# Altium schematic symbol library CHXXX.schlib: 635 symbols (part 3 of 9)
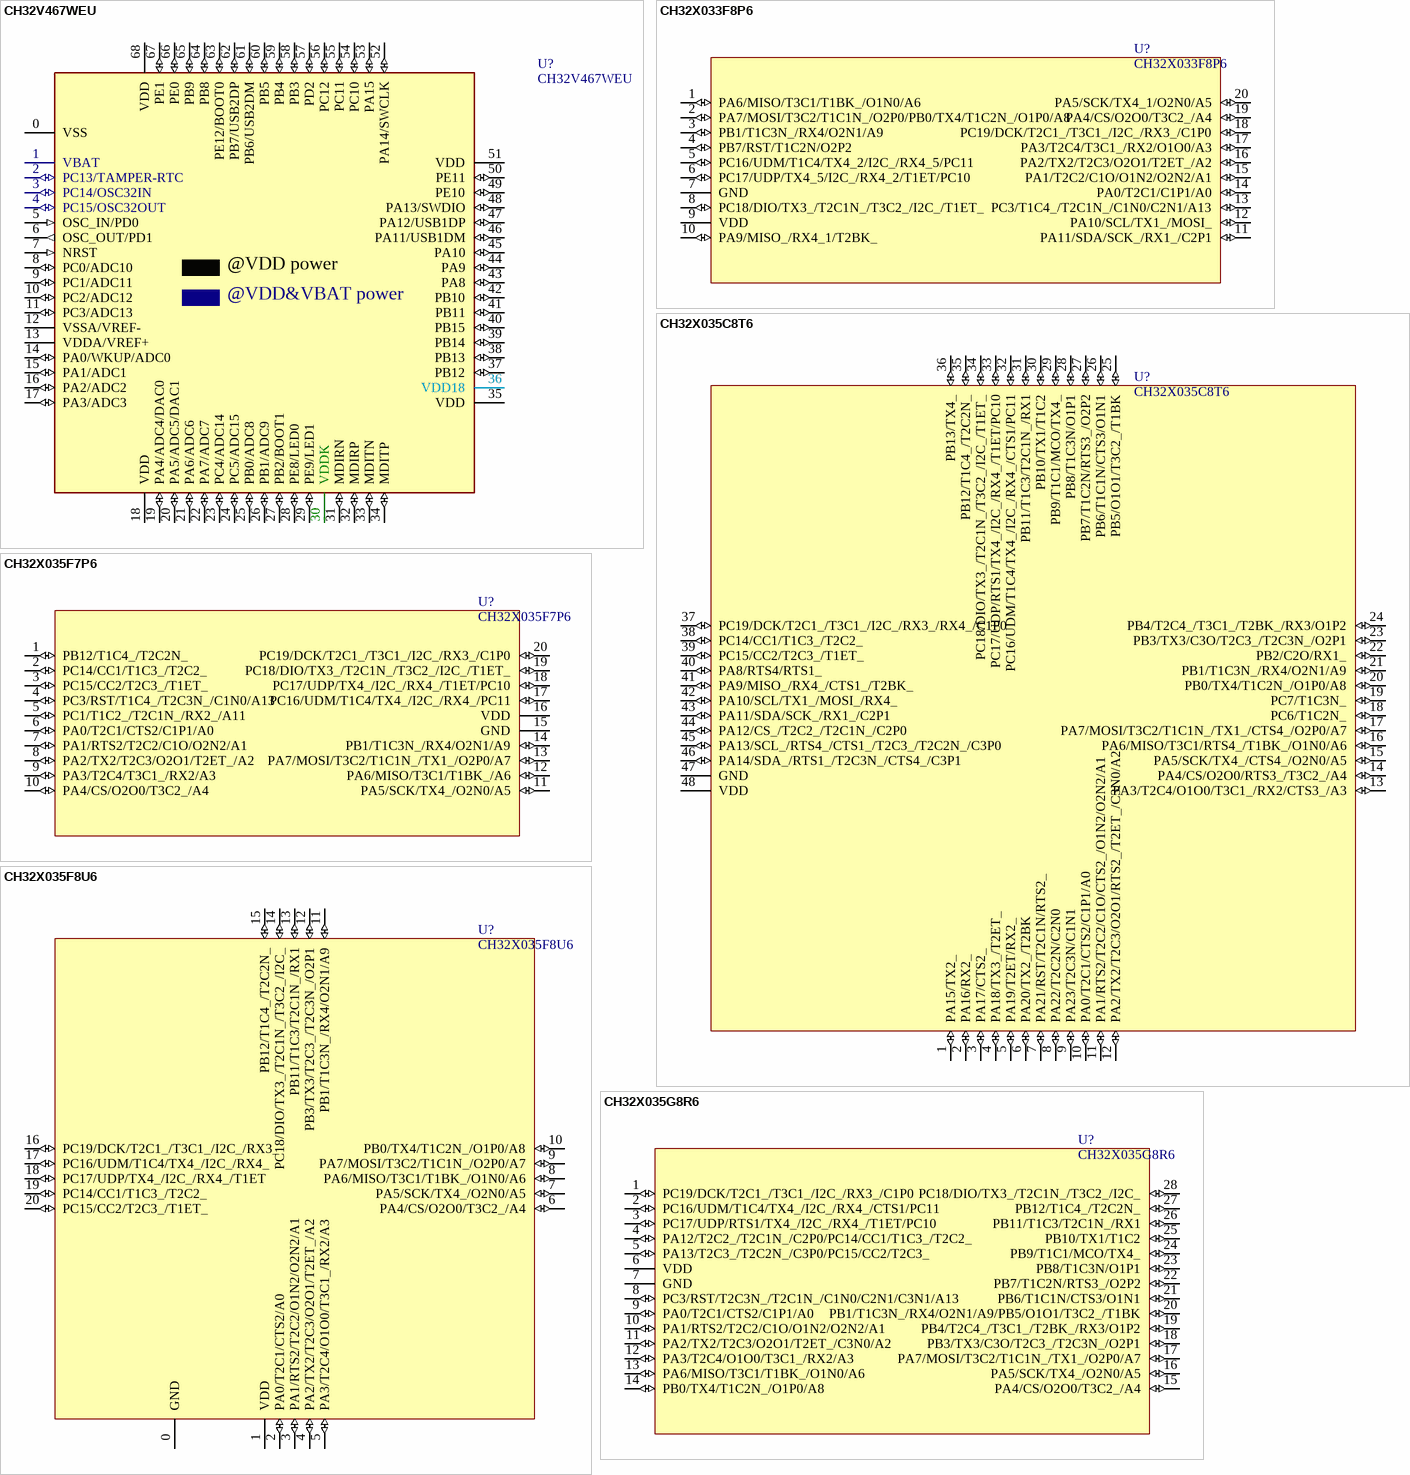
[diagram p88: symbols CH32V467WEU to CH32X035G8R6]

## CH32X035C8T6
designator U?
RISC-V MCU with USB/PD/ADC/SPI/I2C/UART/OA/CMP
footprint LQFP48 (Footprint not found)
pins: 1 PA15/TX2_ (io), 2 PA16/RX2_ (io), 3 PA17/CTS2_ (io), 4 PA18/TX3_/T2ET_ (io), 5 PA19/T2ET/RX2_ (io), 6 PA20/TX2_/T2BK (io), 7 PA21/RST/T2C1N/RTS2_ (io), 8 PA22/T2C2N/C2N0 (io), 9 PA23/T2C3N/C1N1 (io), 10 PA0/T2C1/CTS2/C1P1/A0 (io), 11 PA1/RTS2/T2C2/C1O/CTS2_/O1N2/O2N2/A1 (io), 12 PA2/TX2/T2C3/O2O1/RTS2_/T2ET_/C3N0/A2 (io), 13 PA3/T2C4/O1O0/T3C1_/RX2/CTS3_/A3 (io), 14 PA4/CS/O2O0/RTS3_/T3C2_/A4 (io), 15 PA5/SCK/TX4_/CTS4_/O2N0/A5 (io), 16 PA6/MISO/T3C1/RTS4_/T1BK_/O1N0/A6 (io), 17 PA7/MOSI/T3C2/T1C1N_/TX1_/CTS4_/O2P0/A7 (io), 18 PC6/T1C2N_ (io), 19 PC7/T1C3N_ (io), 20 PB0/TX4/T1C2N_/O1P0/A8 (io), 21 PB1/T1C3N_/RX4/O2N1/A9 (io), 22 PB2/C2O/RX1_ (io), 23 PB3/TX3/C3O/T2C3_/T2C3N_/O2P1 (io), 24 PB4/T2C4_/T3C1_/T2BK_/RX3/O1P2 (io), 25 PB5/O1O1/T3C2_/T1BK (io), 26 PB6/T1C1N/CTS3/O1N1 (io), 27 PB7/T1C2N/RTS3_/O2P2 (io), 28 PB8/T1C3N/O1P1 (io), 29 PB9/T1C1/MCO/TX4_ (io), 30 PB10/TX1/T1C2 (io), 31 PB11/T1C3/T2C1N_/RX1 (io), 32 PC16/UDM/T1C4/TX4_/I2C_/RX4_/CTS1/PC11 (io), 33 PC17/UDP/RTS1/TX4_/I2C_/RX4_/T1ET/PC10 (io), 34 PC18/DIO/TX3_/T2C1N_/T3C2_/I2C_/T1ET_ (io), 35 PB12/T1C4_/T2C2N_ (io), 36 PB13/TX4_ (io), 37 PC19/DCK/T2C1_/T3C1_/I2C_/RX3_/RX4_/C1P0 (io), 38 PC14/CC1/T1C3_/T2C2_ (io), 39 PC15/CC2/T2C3_/T1ET_ (io), 40 PA8/RTS4/RTS1_ (io), 41 PA9/MISO_/RX4_/CTS1_/T2BK_ (io), 42 PA10/SCL/TX1_/MOSI_/RX4_ (io), 43 PA11/SDA/SCK_/RX1_/C2P1 (io), 44 PA12/CS_/T2C2_/T2C1N_/C2P0 (io), 45 PA13/SCL_/RTS4_/CTS1_/T2C3_/T2C2N_/C3P0 (io), 46 PA14/SDA_/RTS1_/T2C3N_/CTS4_/C3P1 (io), 47 GND (power), 48 VDD (power)

## CH32X035F7P6
designator U?
RISC-V MCU with USB/PD/ADC/SPI/I2C/UART/OA/CMP
footprint TSSOP20 (Footprint not found)
pins: 1 PB12/T1C4_/T2C2N_ (io), 2 PC14/CC1/T1C3_/T2C2_ (io), 3 PC15/CC2/T2C3_/T1ET_ (io), 4 PC3/RST/T1C4_/T2C3N_/C1N0/A13 (io), 5 PC1/T1C2_/T2C1N_/RX2_/A11 (io), 6 PA0/T2C1/CTS2/C1P1/A0 (io), 7 PA1/RTS2/T2C2/C1O/O2N2/A1 (io), 8 PA2/TX2/T2C3/O2O1/T2ET_/A2 (io), 9 PA3/T2C4/T3C1_/RX2/A3 (io), 10 PA4/CS/O2O0/T3C2_/A4 (io), 11 PA5/SCK/TX4_/O2N0/A5 (io), 12 PA6/MISO/T3C1/T1BK_/A6 (io), 13 PA7/MOSI/T3C2/T1C1N_/TX1_/O2P0/A7 (io), 14 PB1/T1C3N_/RX4/O2N1/A9 (io), 15 GND (power), 16 VDD (power), 17 PC16/UDM/T1C4/TX4_/I2C_/RX4_/PC11 (io), 18 PC17/UDP/TX4_/I2C_/RX4_/T1ET/PC10 (io), 19 PC18/DIO/TX3_/T2C1N_/T3C2_/I2C_/T1ET_ (io), 20 PC19/DCK/T2C1_/T3C1_/I2C_/RX3_/C1P0 (io)

## CH32X035F8U6
designator U?
RISC-V MCU with USB/PD/ADC/SPI/I2C/UART/OA
footprint QFN20_3X3
pins: 0 GND (power), 1 VDD (power), 2 PA0/T2C1/CTS2/A0 (io), 3 PA1/RTS2/T2C2/O1N2/O2N2/A1 (io), 4 PA2/TX2/T2C3/O2O1/T2ET_/A2 (io), 5 PA3/T2C4/O1O0/T3C1_/RX2/A3 (io), 6 PA4/CS/O2O0/T3C2_/A4 (io), 7 PA5/SCK/TX4_/O2N0/A5 (io), 8 PA6/MISO/T3C1/T1BK_/O1N0/A6 (io), 9 PA7/MOSI/T3C2/T1C1N_/O2P0/A7 (io), 10 PB0/TX4/T1C2N_/O1P0/A8 (io), 11 PB1/T1C3N_/RX4/O2N1/A9 (io), 12 PB3/TX3/T2C3_/T2C3N_/O2P1 (io), 13 PB11/T1C3/T2C1N_/RX1 (io), 14 PC18/DIO/TX3_/T2C1N_/T3C2_/I2C_ (io), 15 PB12/T1C4_/T2C2N_ (io), 16 PC19/DCK/T2C1_/T3C1_/I2C_/RX3_ (io), 17 PC16/UDM/T1C4/TX4_/I2C_/RX4_ (io), 18 PC17/UDP/TX4_/I2C_/RX4_/T1ET (io), 19 PC14/CC1/T1C3_/T2C2_ (io), 20 PC15/CC2/T2C3_/T1ET_ (io)

## CH32X035G8R6
designator U?
RISC-V MCU with USB/PD/ADC/SPI/I2C/UART/OA/CMP
footprint QSOP28 (Footprint not found)
pins: 1 PC19/DCK/T2C1_/T3C1_/I2C_/RX3_/C1P0 (io), 2 PC16/UDM/T1C4/TX4_/I2C_/RX4_/CTS1/PC11 (io), 3 PC17/UDP/RTS1/TX4_/I2C_/RX4_/T1ET/PC10 (io), 4 PA12/T2C2_/T2C1N_/C2P0/PC14/CC1/T1C3_/T2C2_ (io), 5 PA13/T2C3_/T2C2N_/C3P0/PC15/CC2/T2C3_ (io), 6 VDD (power), 7 GND (power), 8 PC3/RST/T2C3N_/T2C1N_/C1N0/C2N1/C3N1/A13 (io), 9 PA0/T2C1/CTS2/C1P1/A0 (io), 10 PA1/RTS2/T2C2/C1O/O1N2/O2N2/A1 (io), 11 PA2/TX2/T2C3/O2O1/T2ET_/C3N0/A2 (io), 12 PA3/T2C4/O1O0/T3C1_/RX2/A3 (io), 13 PA6/MISO/T3C1/T1BK_/O1N0/A6 (io), 14 PB0/TX4/T1C2N_/O1P0/A8 (io), 15 PA4/CS/O2O0/T3C2_/A4 (io), 16 PA5/SCK/TX4_/O2N0/A5 (io), 17 PA7/MOSI/T3C2/T1C1N_/TX1_/O2P0/A7 (io), 18 PB3/TX3/C3O/T2C3_/T2C3N_/O2P1 (io), 19 PB4/T2C4_/T3C1_/T2BK_/RX3/O1P2 (io), 20 PB1/T1C3N_/RX4/O2N1/A9/PB5/O1O1/T3C2_/T1BK (io), 21 PB6/T1C1N/CTS3/O1N1 (io), 22 PB7/T1C2N/RTS3_/O2P2 (io), 23 PB8/T1C3N/O1P1 (io), 24 PB9/T1C1/MCO/TX4_ (io), 25 PB10/TX1/T1C2 (io), 26 PB11/T1C3/T2C1N_/RX1 (io), 27 PB12/T1C4_/T2C2N_ (io), 28 PC18/DIO/TX3_/T2C1N_/T3C2_/I2C_ (io)

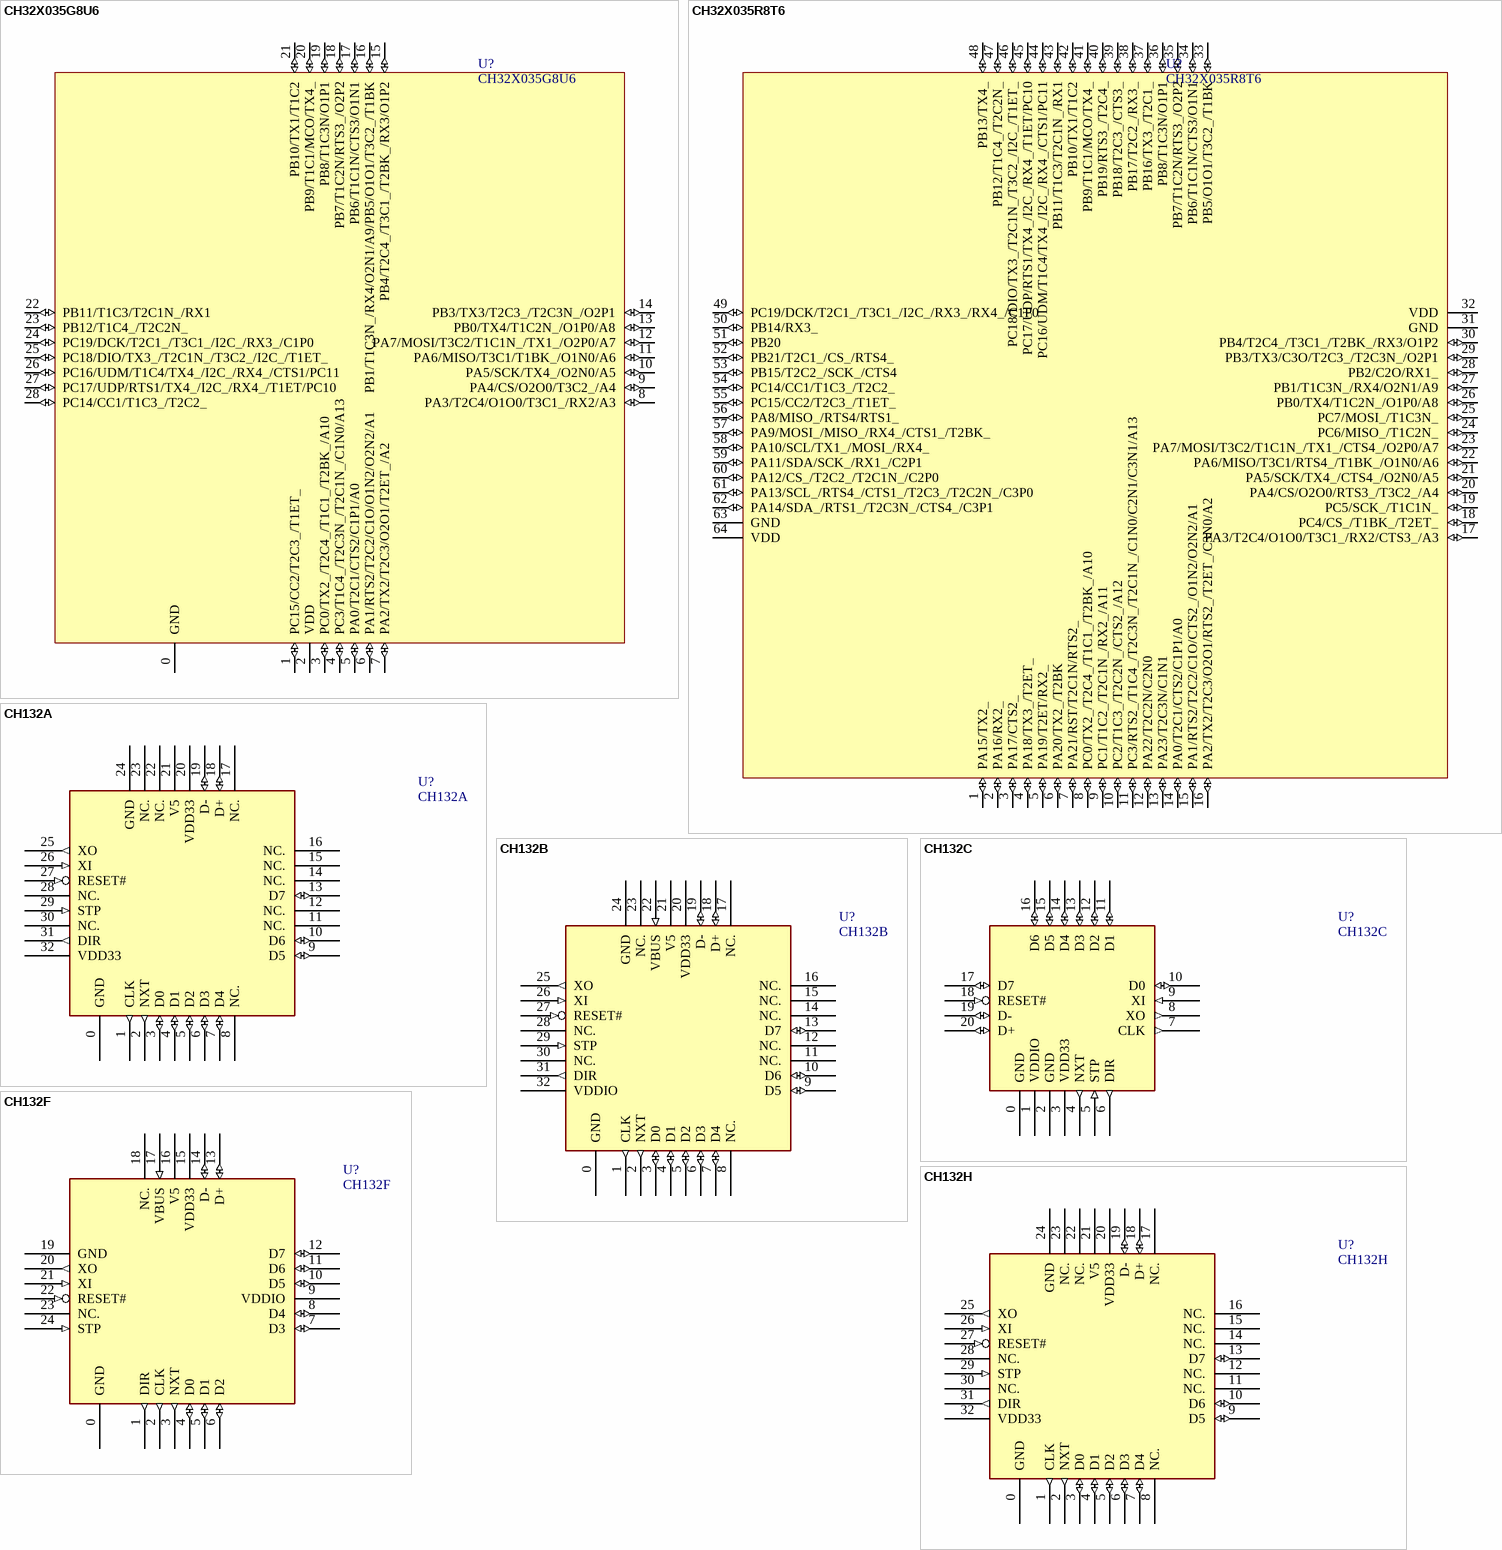
[diagram p19: symbols CH32X035G8U6 to CH132H]

## CH32X035G8U6
designator U?
RISC-V MCU with USB/PD/ADC/SPI/I2C/UART/OA/CMP
footprint QFN28_4X4 (Footprint not found)
pins: 0 GND (power), 1 PC15/CC2/T2C3_/T1ET_ (io), 2 VDD (power), 3 PC0/TX2_/T2C4_/T1C1_/T2BK_/A10 (io), 4 PC3/T1C4_/T2C3N_/T2C1N_/C1N0/A13 (io), 5 PA0/T2C1/CTS2/C1P1/A0 (io), 6 PA1/RTS2/T2C2/C1O/O1N2/O2N2/A1 (io), 7 PA2/TX2/T2C3/O2O1/T2ET_/A2 (io), 8 PA3/T2C4/O1O0/T3C1_/RX2/A3 (io), 9 PA4/CS/O2O0/T3C2_/A4 (io), 10 PA5/SCK/TX4_/O2N0/A5 (io), 11 PA6/MISO/T3C1/T1BK_/O1N0/A6 (io), 12 PA7/MOSI/T3C2/T1C1N_/TX1_/O2P0/A7 (io), 13 PB0/TX4/T1C2N_/O1P0/A8 (io), 14 PB3/TX3/T2C3_/T2C3N_/O2P1 (io), 15 PB4/T2C4_/T3C1_/T2BK_/RX3/O1P2 (io), 16 PB1/T1C3N_/RX4/O2N1/A9/PB5/O1O1/T3C2_/T1BK (io), 17 PB6/T1C1N/CTS3/O1N1 (io), 18 PB7/T1C2N/RTS3_/O2P2 (io), 19 PB8/T1C3N/O1P1 (io), 20 PB9/T1C1/MCO/TX4_ (io), 21 PB10/TX1/T1C2 (io), 22 PB11/T1C3/T2C1N_/RX1 (io), 23 PB12/T1C4_/T2C2N_ (io), 24 PC19/DCK/T2C1_/T3C1_/I2C_/RX3_/C1P0 (io), 25 PC18/DIO/TX3_/T2C1N_/T3C2_/I2C_/T1ET_ (io), 26 PC16/UDM/T1C4/TX4_/I2C_/RX4_/CTS1/PC11 (io), 27 PC17/UDP/RTS1/TX4_/I2C_/RX4_/T1ET/PC10 (io), 28 PC14/CC1/T1C3_/T2C2_ (io)

## CH32X035R8T6
designator U?
RISC-V MCU with USB/PD/ADC/SPI/I2C/UART/OA/CMP
footprint LQFP64M_10X10
pins: 1 PA15/TX2_ (io), 2 PA16/RX2_ (io), 3 PA17/CTS2_ (io), 4 PA18/TX3_/T2ET_ (io), 5 PA19/T2ET/RX2_ (io), 6 PA20/TX2_/T2BK (io), 7 PA21/RST/T2C1N/RTS2_ (io), 8 PC0/TX2_/T2C4_/T1C1_/T2BK_/A10 (io), 9 PC1/T1C2_/T2C1N_/RX2_/A11 (io), 10 PC2/T1C3_/T2C2N_/CTS2_/A12 (io), 11 PC3/RTS2_/T1C4_/T2C3N_/T2C1N_/C1N0/C2N1/C3N1/A13 (io), 12 PA22/T2C2N/C2N0 (io), 13 PA23/T2C3N/C1N1 (io), 14 PA0/T2C1/CTS2/C1P1/A0 (io), 15 PA1/RTS2/T2C2/C1O/CTS2_/O1N2/O2N2/A1 (io), 16 PA2/TX2/T2C3/O2O1/RTS2_/T2ET_/C3N0/A2 (io), 17 PA3/T2C4/O1O0/T3C1_/RX2/CTS3_/A3 (io), 18 PC4/CS_/T1BK_/T2ET_ (io), 19 PC5/SCK_/T1C1N_ (io), 20 PA4/CS/O2O0/RTS3_/T3C2_/A4 (io), 21 PA5/SCK/TX4_/CTS4_/O2N0/A5 (io), 22 PA6/MISO/T3C1/RTS4_/T1BK_/O1N0/A6 (io), 23 PA7/MOSI/T3C2/T1C1N_/TX1_/CTS4_/O2P0/A7 (io), 24 PC6/MISO_/T1C2N_ (io), 25 PC7/MOSI_/T1C3N_ (io), 26 PB0/TX4/T1C2N_/O1P0/A8 (io), 27 PB1/T1C3N_/RX4/O2N1/A9 (io), 28 PB2/C2O/RX1_ (io), 29 PB3/TX3/C3O/T2C3_/T2C3N_/O2P1 (io), 30 PB4/T2C4_/T3C1_/T2BK_/RX3/O1P2 (io), 31 GND (power), 32 VDD (power), 33 PB5/O1O1/T3C2_/T1BK (io), 34 PB6/T1C1N/CTS3/O1N1 (io), 35 PB7/T1C2N/RTS3_/O2P2 (io), 36 PB8/T1C3N/O1P1 (io), 37 PB16/TX3_/T2C1_ (io), 38 PB17/T2C2_/RX3_ (io), 39 PB18/T2C3_/CTS3_ (io), 40 PB19/RTS3_/T2C4_ (io), 41 PB9/T1C1/MCO/TX4_ (io), 42 PB10/TX1/T1C2 (io), 43 PB11/T1C3/T2C1N_/RX1 (io), 44 PC16/UDM/T1C4/TX4_/I2C_/RX4_/CTS1/PC11 (io), 45 PC17/UDP/RTS1/TX4_/I2C_/RX4_/T1ET/PC10 (io), 46 PC18/DIO/TX3_/T2C1N_/T3C2_/I2C_/T1ET_ (io), 47 PB12/T1C4_/T2C2N_ (io), 48 PB13/TX4_ (io), 49 PC19/DCK/T2C1_/T3C1_/I2C_/RX3_/RX4_/C1P0 (io), 50 PB14/RX3_ (io), 51 PB20 (io), 52 PB21/T2C1_/CS_/RTS4_ (io), 53 PB15/T2C2_/SCK_/CTS4 (io), 54 PC14/CC1/T1C3_/T2C2_ (io), 55 PC15/CC2/T2C3_/T1ET_ (io), 56 PA8/MISO_/RTS4/RTS1_ (io), 57 PA9/MOSI_/MISO_/RX4_/CTS1_/T2BK_ (io), 58 PA10/SCL/TX1_/MOSI_/RX4_ (io), 59 PA11/SDA/SCK_/RX1_/C2P1 (io), 60 PA12/CS_/T2C2_/T2C1N_/C2P0 (io), 61 PA13/SCL_/RTS4_/CTS1_/T2C3_/T2C2N_/C3P0 (io), 62 PA14/SDA_/RTS1_/T2C3N_/CTS4_/C3P1 (io), 63 GND (power), 64 VDD (power)

## CH132A
designator U?
ULPI High-Speed USB PHY (Transceiver)
footprint QFN32_5X5 (Footprint not found)
pins: 0 GND (power), 1 CLK (out), 2 NXT (out), 3 D0 (io), 4 D1 (io), 5 D2 (io), 6 D3 (io), 7 D4 (io), 8 NC., 9 D5 (io), 10 D6 (io), 11 NC., 12 NC., 13 D7 (io), 14 NC., 15 NC., 16 NC., 17 NC., 18 D+ (io), 19 D- (io), 20 VDD33 (power), 21 V5 (power), 22 NC., 23 NC., 24 GND (power), 25 XO (out), 26 XI (in), 27 RESET# (in), 28 NC., 29 STP (in), 30 NC., 31 DIR (out), 32 VDD33

## CH132B
designator U?
ULPI High-Speed USB PHY (Transceiver)
footprint QFN32_5X5
pins: 0 GND (power), 1 CLK (out), 2 NXT (out), 3 D0 (io), 4 D1 (io), 5 D2 (io), 6 D3 (io), 7 D4 (io), 8 NC., 9 D5 (io), 10 D6 (io), 11 NC., 12 NC., 13 D7 (io), 14 NC., 15 NC., 16 NC., 17 NC., 18 D+ (io), 19 D- (io), 20 VDD33 (power), 21 V5 (power), 22 VBUS (in), 23 NC., 24 GND (power), 25 XO (out), 26 XI (in), 27 RESET# (in), 28 NC., 29 STP (in), 30 NC., 31 DIR (out), 32 VDDIO

## CH132C
designator U?
ULPI High-Speed USB PHY (Transceiver)
footprint QFN20C_2X2 (Footprint not found)
pins: 0 GND (power), 1 VDDIO (power), 2 GND (power), 3 VDD33 (power), 4 NXT (out), 5 STP (in), 6 DIR (out), 7 CLK (out), 8 XO (out), 9 XI (in), 10 D0 (io), 11 D1 (io), 12 D2 (io), 13 D3 (io), 14 D4 (io), 15 D5 (io), 16 D6 (io), 17 D7 (io), 18 RESET# (in), 19 D- (io), 20 D+ (io)

## CH132F
designator U?
ULPI High-Speed USB PHY (Transceiver)
footprint QFN24_4X4
pins: 0 GND (power), 1 DIR (out), 2 CLK (out), 3 NXT (out), 4 D0 (io), 5 D1 (io), 6 D2 (io), 7 D3 (io), 8 D4 (io), 9 VDDIO (power), 10 D5 (io), 11 D6 (io), 12 D7 (io), 13 D+ (io), 14 D- (io), 15 VDD33 (power), 16 V5 (power), 17 VBUS (in), 18 NC., 19 GND (power), 20 XO (out), 21 XI (in), 22 RESET# (in), 23 NC., 24 STP (in)

## CH132H
designator U?
ULPI High-Speed USB PHY (Transceiver)
footprint QFN32_5X5 (Footprint not found)
pins: 0 GND (power), 1 CLK (out), 2 NXT (out), 3 D0 (io), 4 D1 (io), 5 D2 (io), 6 D3 (io), 7 D4 (io), 8 NC., 9 D5 (io), 10 D6 (io), 11 NC., 12 NC., 13 D7 (io), 14 NC., 15 NC., 16 NC., 17 NC., 18 D+ (io), 19 D- (io), 20 VDD33 (power), 21 V5 (power), 22 NC., 23 NC., 24 GND (power), 25 XO (out), 26 XI (in), 27 RESET# (in), 28 NC., 29 STP (in), 30 NC., 31 DIR (out), 32 VDD33 (power)

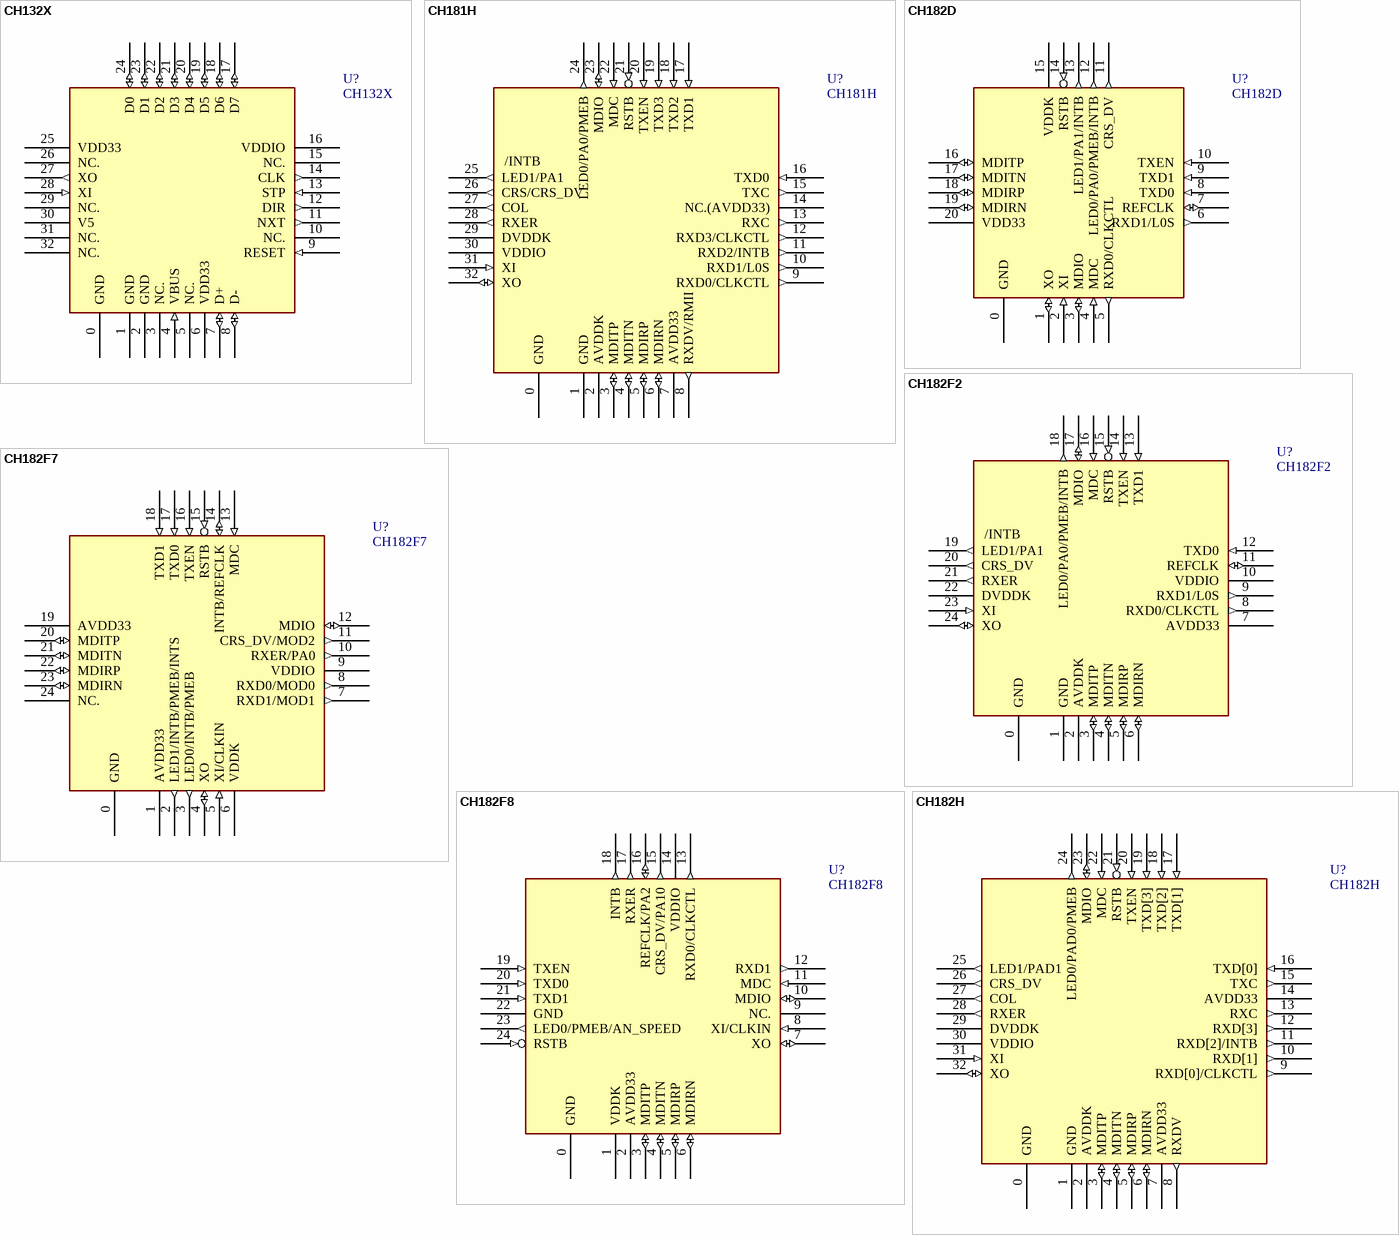
[diagram p20: symbols CH132X to CH182H]

## CH132X
designator U?
ULPI High-Speed USB PHY (Transceiver)
footprint QFN32_5X5
pins: 0 GND (power), 1 GND (power), 2 GND (power), 3 NC., 4 VBUS (in), 5 NC., 6 VDD33 (power), 7 D+ (io), 8 D- (io), 9 RESET (in), 10 NC., 11 NXT (out), 12 DIR (out), 13 STP (in), 14 CLK (out), 15 NC., 16 VDDIO (power), 17 D7 (io), 18 D6 (io), 19 D5 (io), 20 D4 (io), 21 D3 (io), 22 D2 (io), 23 D1 (io), 24 D0 (io), 25 VDD33 (power), 26 NC., 27 XO (out), 28 XI (in), 29 NC., 30 V5 (power), 31 NC., 32 NC.

## CH181H
designator U?
MII/RMII 10/100M Ethernet PHY (Transceiver) with auto MDIX
footprint QFN32_5X5
pins: 0 GND (power), 1 GND (power), 2 AVDDK (power), 3 MDITP (io), 4 MDITN (io), 5 MDIRP (io), 6 MDIRN (io), 7 AVDD33 (power), 8 RXDV/RMII (out), 9 RXD0/CLKCTL (out), 10 RXD1/L0S (out), 11 RXD2/INTB (out), 12 RXD3/CLKCTL (out), 13 RXC (out), 14 NC.(AVDD33) (power), 15 TXC (out), 16 TXD0 (in), 17 TXD1 (in), 18 TXD2 (in), 19 TXD3 (in), 20 TXEN (in), 21 RSTB (in), 22 MDC (in), 23 MDIO (io), 24 LED0/PA0/PMEB (out), 25 LED1/PA1 (out), 26 CRS/CRS_DV (out), 27 COL (out), 28 RXER (out), 29 DVDDK (power), 30 VDDIO (power), 31 XI (in), 32 XO (io)
text: /INTB

## CH182D
designator U?
RMII 10/100M Ethernet PHY (Transceiver) with auto MDIX
footprint QFN20_3X3
pins: 0 GND (power), 1 XO (io), 2 XI (in), 3 MDIO (io), 4 MDC (in), 5 RXD0/CLKCTL (out), 6 RXD1/L0S (out), 7 REFCLK (io), 8 TXD0 (in), 9 TXD1 (in), 10 TXEN (in), 11 CRS_DV (out), 12 LED0/PA0/PMEB/INTB (out), 13 LED1/PA1/INTB (out), 14 RSTB (in), 15 VDDK (power), 16 MDITP (io), 17 MDITN (io), 18 MDIRP (io), 19 MDIRN (io), 20 VDD33 (power)

## CH182F2
designator U?
RMII 10/100M Ethernet PHY (Transceiver) with auto MDIX
footprint QFN24_4X4
pins: 0 GND (power), 1 GND (power), 2 AVDDK (power), 3 MDITP (io), 4 MDITN (io), 5 MDIRP (io), 6 MDIRN (io), 7 AVDD33 (power), 8 RXD0/CLKCTL (out), 9 RXD1/L0S (out), 10 VDDIO (power), 11 REFCLK (io), 12 TXD0 (in), 13 TXD1 (in), 14 TXEN (in), 15 RSTB (in), 16 MDC (in), 17 MDIO (io), 18 LED0/PA0/PMEB/INTB (out), 19 LED1/PA1 (out), 20 CRS_DV (out), 21 RXER (out), 22 DVDDK (power), 23 XI (in), 24 XO (io)
text: /INTB

## CH182F7
designator U?
RMII 10/100M Ethernet PHY (Transceiver) with auto MDIX
footprint QFN24_4X4
pins: 0 GND (power), 1 AVDD33 (power), 2 LED1/INTB/PMEB/INTS (out), 3 LED0/INTB/PMEB (out), 4 XO (io), 5 XI/CLKIN (in), 6 VDDK (power), 7 RXD1/MOD1 (out), 8 RXD0/MOD0 (out), 9 VDDIO (power), 10 RXER/PA0 (out), 11 CRS_DV/MOD2 (out), 12 MDIO (io), 13 MDC (in), 14 INTB/REFCLK (io), 15 RSTB (in), 16 TXEN (in), 17 TXD0 (in), 18 TXD1 (in), 19 AVDD33 (power), 20 MDITP (io), 21 MDITN (io), 22 MDIRP (io), 23 MDIRN (io), 24 NC.

## CH182F8
designator U?
RMII 10/100M Ethernet PHY (Transceiver) with auto MDIX
footprint QFN24_4X4
pins: 0 GND (power), 1 VDDK (power), 2 AVDD33 (power), 3 MDITP (io), 4 MDITN (io), 5 MDIRP (io), 6 MDIRN (io), 7 XO (io), 8 XI/CLKIN (in), 9 NC., 10 MDIO (io), 11 MDC (in), 12 RXD1 (out), 13 RXD0/CLKCTL (out), 14 VDDIO (power), 15 CRS_DV/PA10 (out), 16 REFCLK/PA2 (io), 17 RXER (out), 18 INTB (out), 19 TXEN (in), 20 TXD0 (in), 21 TXD1 (in), 22 GND (power), 23 LED0/PMEB/AN_SPEED (out), 24 RSTB (in)

## CH182H
designator U?
MII/RMII 10/100M Ethernet PHY (Transceiver) with auto MDIX
footprint QFN32_5X5 (Footprint not found)
pins: 0 GND (power), 1 GND (power), 2 AVDDK (power), 3 MDITP (io), 4 MDITN (io), 5 MDIRP (io), 6 MDIRN (io), 7 AVDD33 (power), 8 RXDV (out), 9 RXD[0]/CLKCTL (out), 10 RXD[1] (out), 11 RXD[2]/INTB (out), 12 RXD[3] (out), 13 RXC (out), 14 AVDD33 (power), 15 TXC (out), 16 TXD[0] (in), 17 TXD[1] (in), 18 TXD[2] (in), 19 TXD[3] (in), 20 TXEN (in), 21 RSTB (in), 22 MDC (in), 23 MDIO (io), 24 LED0/PAD0/PMEB (out), 25 LED1/PAD1 (out), 26 CRS_DV (out), 27 COL (out), 28 RXER (out), 29 DVDDK (power), 30 VDDIO (power), 31 XI (in), 32 XO (io)

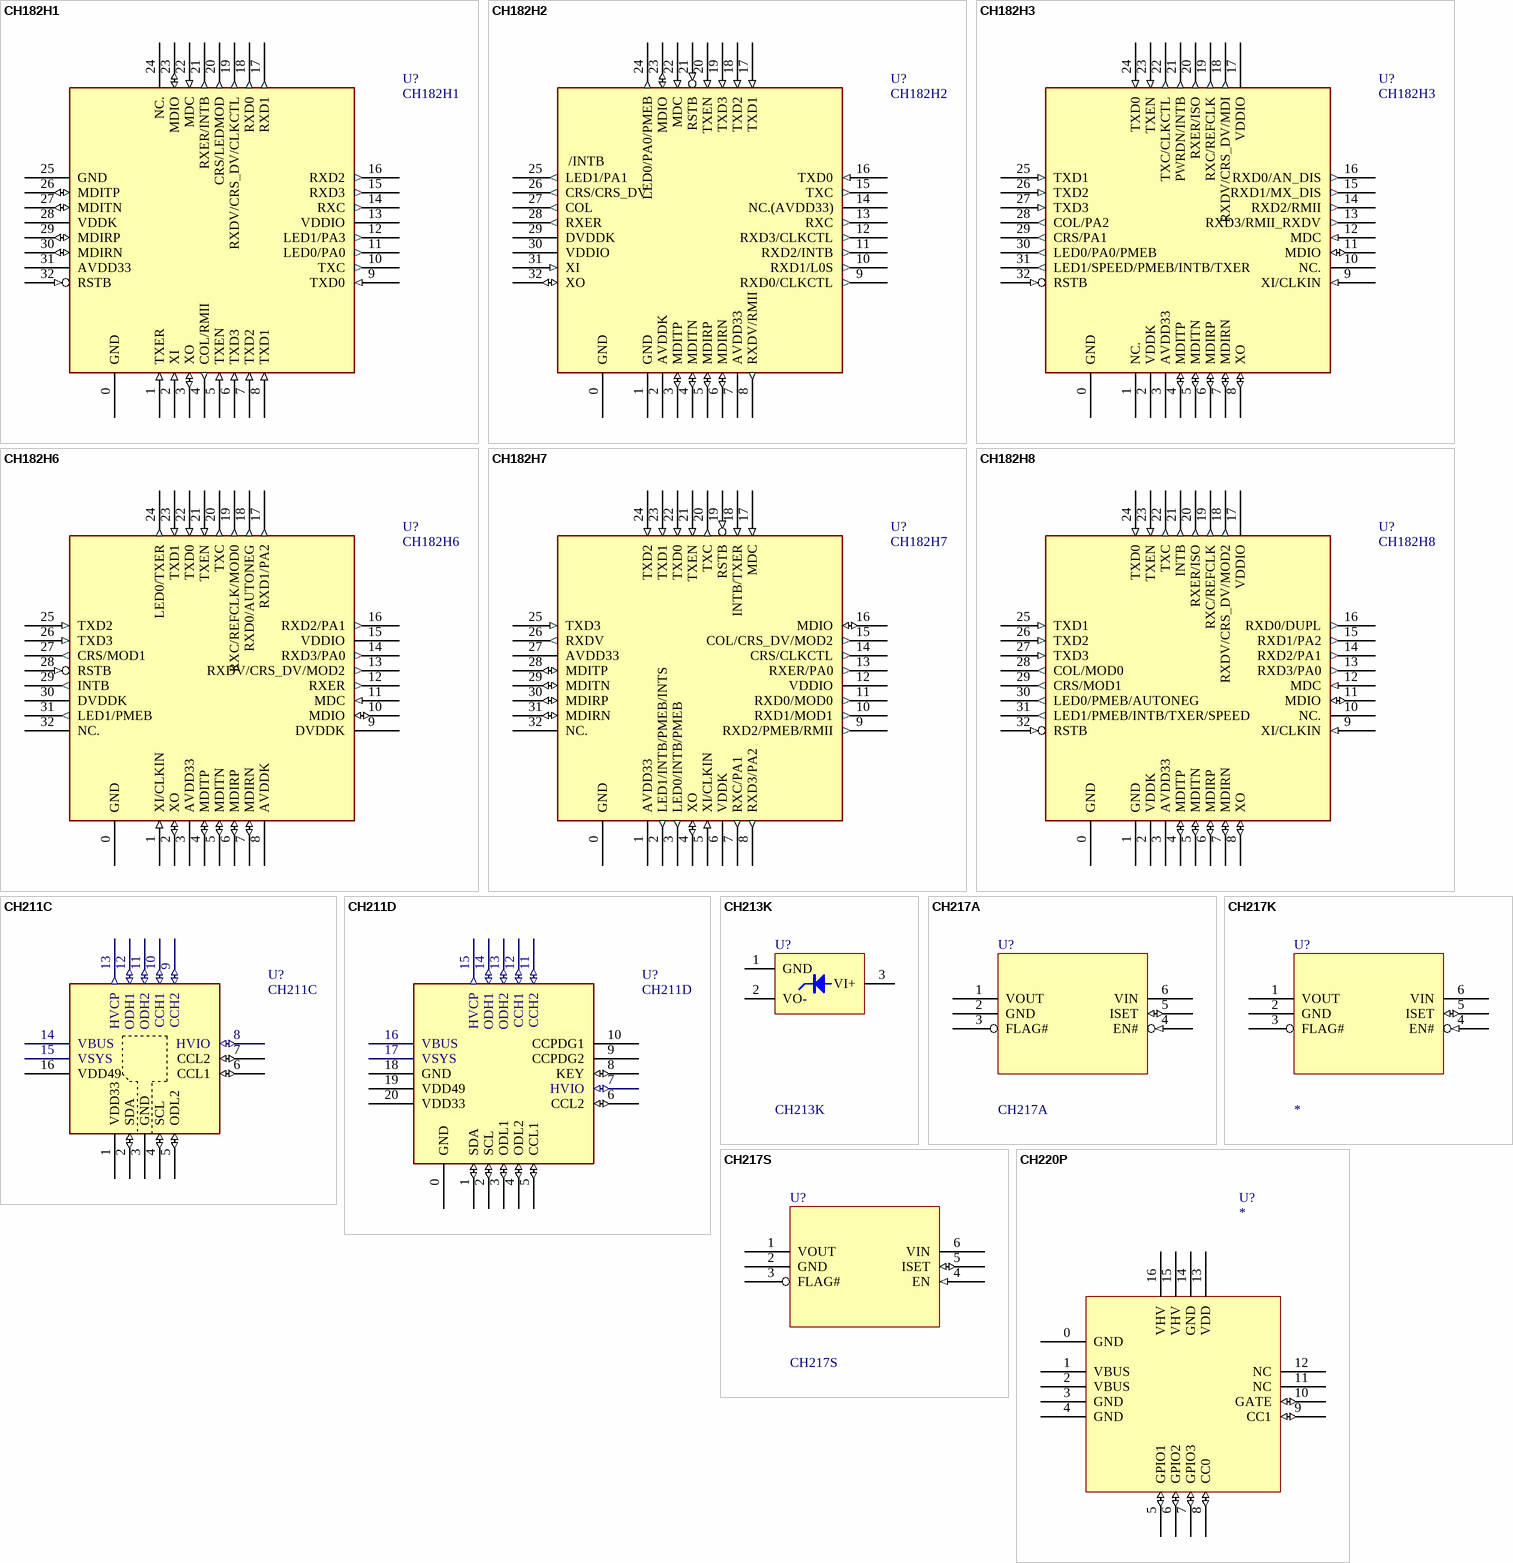
[diagram p21: symbols CH182H1 to CH220P]

## CH182H1
designator U?
MII/RMII 10/100M Ethernet PHY (Transceiver) with auto MDIX
footprint QFN32_4X4
pins: 0 GND (power), 1 TXER (in), 2 XI (in), 3 XO (io), 4 COL/RMII (out), 5 TXEN (in), 6 TXD3 (in), 7 TXD2 (in), 8 TXD1 (in), 9 TXD0 (in), 10 TXC (out), 11 LED0/PA0 (out), 12 LED1/PA3 (out), 13 VDDIO (power), 14 RXC (out), 15 RXD3 (out), 16 RXD2 (out), 17 RXD1 (out), 18 RXD0 (out), 19 RXDV/CRS_DV/CLKCTL (out), 20 CRS/LEDMOD (out), 21 RXER/INTB (out), 22 MDC (in), 23 MDIO (io), 24 NC., 25 GND (power), 26 MDITP (io), 27 MDITN (io), 28 VDDK (power), 29 MDIRP (io), 30 MDIRN (io), 31 AVDD33 (power), 32 RSTB (in)

## CH182H2
designator U?
MII/RMII 10/100M Ethernet PHY (Transceiver) with auto MDIX
footprint QFN32_5X5
pins: 0 GND (power), 1 GND (power), 2 AVDDK (power), 3 MDITP (io), 4 MDITN (io), 5 MDIRP (io), 6 MDIRN (io), 7 AVDD33 (power), 8 RXDV/RMII (out), 9 RXD0/CLKCTL (out), 10 RXD1/L0S (out), 11 RXD2/INTB (out), 12 RXD3/CLKCTL (out), 13 RXC (out), 14 NC.(AVDD33) (power), 15 TXC (out), 16 TXD0 (in), 17 TXD1 (in), 18 TXD2 (in), 19 TXD3 (in), 20 TXEN (in), 21 RSTB (in), 22 MDC (in), 23 MDIO (io), 24 LED0/PA0/PMEB (out), 25 LED1/PA1 (out), 26 CRS/CRS_DV (out), 27 COL (out), 28 RXER (out), 29 DVDDK (power), 30 VDDIO (power), 31 XI (in), 32 XO (io)
text: /INTB

## CH182H3
designator U?
MII/RMII 10/100M Ethernet PHY (Transceiver) with auto MDIX
footprint QFN32_5X5
pins: 0 GND (power), 1 NC., 2 VDDK (power), 3 AVDD33 (power), 4 MDITP (io), 5 MDITN (io), 6 MDIRP (io), 7 MDIRN (io), 8 XO (io), 9 XI/CLKIN (in), 10 NC., 11 MDIO (io), 12 MDC (in), 13 RXD3/RMII_RXDV (out), 14 RXD2/RMII (out), 15 RXD1/MX_DIS (out), 16 RXD0/AN_DIS (out), 17 VDDIO (power), 18 RXDV/CRS_DV/MDI (out), 19 RXC/REFCLK (out), 20 RXER/ISO (out), 21 PWRDN/INTB (out), 22 TXC/CLKCTL (out), 23 TXEN (in), 24 TXD0 (in), 25 TXD1 (in), 26 TXD2 (in), 27 TXD3 (in), 28 COL/PA2 (out), 29 CRS/PA1 (out), 30 LED0/PA0/PMEB (out), 31 LED1/SPEED/PMEB/INTB/TXER (out), 32 RSTB (in)

## CH182H6
designator U?
MII/RMII 10/100M Ethernet PHY (Transceiver) with auto MDIX
footprint QFN32_5X5
pins: 0 GND (power), 1 XI/CLKIN (in), 2 XO (io), 3 AVDD33 (power), 4 MDITP (io), 5 MDITN (io), 6 MDIRP (io), 7 MDIRN (io), 8 AVDDK (power), 9 DVDDK (power), 10 MDIO (io), 11 MDC (in), 12 RXER (out), 13 RXDV/CRS_DV/MOD2 (out), 14 RXD3/PA0 (out), 15 VDDIO (power), 16 RXD2/PA1 (out), 17 RXD1/PA2 (out), 18 RXD0/AUTONEG (out), 19 RXC/REFCLK/MOD0 (out), 20 TXC (out), 21 TXEN (in), 22 TXD0 (in), 23 TXD1 (in), 24 LED0/TXER (out), 25 TXD2 (in), 26 TXD3 (in), 27 CRS/MOD1 (out), 28 RSTB (in), 29 INTB (out), 30 DVDDK (power), 31 LED1/PMEB (out), 32 NC.

## CH182H7
designator U?
MII/RMII 10/100M Ethernet PHY (Transceiver) with auto MDIX
footprint QFN32_5X5
pins: 0 GND (power), 1 AVDD33 (power), 2 LED1/INTB/PMEB/INTS (out), 3 LED0/INTB/PMEB (out), 4 XO (io), 5 XI/CLKIN (in), 6 VDDK (power), 7 RXC/PA1 (out), 8 RXD3/PA2 (out), 9 RXD2/PMEB/RMII (out), 10 RXD1/MOD1 (out), 11 RXD0/MOD0 (out), 12 VDDIO (power), 13 RXER/PA0 (out), 14 CRS/CLKCTL (out), 15 COL/CRS_DV/MOD2 (out), 16 MDIO (io), 17 MDC (in), 18 INTB/TXER (in), 19 RSTB (in), 20 TXC (out), 21 TXEN (in), 22 TXD0 (in), 23 TXD1 (in), 24 TXD2 (in), 25 TXD3 (in), 26 RXDV (out), 27 AVDD33 (power), 28 MDITP (io), 29 MDITN (io), 30 MDIRP (io), 31 MDIRN (io), 32 NC.

## CH182H8
designator U?
MII/RMII 10/100M Ethernet PHY (Transceiver) with auto MDIX
footprint QFN32_5X5
pins: 0 GND (power), 1 GND (power), 2 VDDK (power), 3 AVDD33 (power), 4 MDITP (io), 5 MDITN (io), 6 MDIRP (io), 7 MDIRN (io), 8 XO (io), 9 XI/CLKIN (in), 10 NC., 11 MDIO (io), 12 MDC (in), 13 RXD3/PA0 (out), 14 RXD2/PA1 (out), 15 RXD1/PA2 (out), 16 RXD0/DUPL (out), 17 VDDIO (power), 18 RXDV/CRS_DV/MOD2 (out), 19 RXC/REFCLK (out), 20 RXER/ISO (out), 21 INTB (out), 22 TXC (out), 23 TXEN (in), 24 TXD0 (in), 25 TXD1 (in), 26 TXD2 (in), 27 TXD3 (in), 28 COL/MOD0 (out), 29 CRS/MOD1 (out), 30 LED0/PMEB/AUTONEG (out), 31 LED1/PMEB/INTB/TXER/SPEED (out), 32 RSTB (in)

## CH211C
designator U?
28V USB PD & Type-C high voltage interface
footprint QFN16C_2X2
pins: 1 VDD33 (power), 2 SDA (io), 3 GND (power), 4 SCL (io), 5 ODL2 (io), 6 CCL1 (io), 7 CCL2 (io), 8 HVIO (io), 9 CCH2 (io), 10 CCH1 (io), 11 ODH2 (io), 12 ODH1 (io), 13 HVCP (out), 14 VBUS (power), 15 VSYS (power), 16 VDD49 (power)

## CH211D
designator U?
28V USB PD & Type-C high voltage interface
footprint QFN20_3X3
pins: 0 GND (power), 1 SDA (io), 2 SCL (io), 3 ODL1 (io), 4 ODL2 (io), 5 CCL1 (io), 6 CCL2 (io), 7 HVIO (io), 8 KEY (io), 9 CCPDG2 (power), 10 CCPDG1 (power), 11 CCH2 (io), 12 CCH1 (io), 13 ODH2 (io), 14 ODH1 (io), 15 HVCP (out), 16 VBUS (power), 17 VSYS (power), 18 GND (power), 19 VDD49 (power), 20 VDD33 (power)

## CH213K
designator U?
Ideal Diode 5V*1A
footprint SOT23L (Footprint not found)
footprint SOT-23-3
pins: 1 GND (power), 2 VO- (power), 3 VI+ (power)

## CH217A
designator U?
Current-Limited USB Power Distribution Switch
footprint SOT-23-6
pins: 1 VOUT (power), 2 GND (power), 3 FLAG# (oc), 4 EN# (in), 5 ISET (io), 6 VIN (power)

## CH217K
designator U?
Current-Limited USB Power Distribution Switch
footprint SOT-23-6
pins: 1 VOUT (power), 2 GND (power), 3 FLAG# (oc), 4 EN# (in), 5 ISET (io), 6 VIN (power)

## CH217S
designator U?
Current-Limited USB Power Distribution Switch
footprint SOT-23-6
pins: 1 VOUT (power), 2 GND (power), 3 FLAG# (oc), 4 EN (in), 5 ISET (io), 6 VIN (power)

## CH220P
designator U?
USB PD & Type-C Power Manager
footprint QFN16_3X3
pins: 0 GND (power), 1 VBUS (power), 2 VBUS (power), 3 GND (power), 4 GND (power), 5 GPIO1 (io), 6 GPIO2 (io), 7 GPIO3 (io), 8 CC0 (io), 9 CC1 (io), 10 GATE (io), 11 NC, 12 NC, 13 VDD (power), 14 GND (power), 15 VHV (power), 16 VHV (power)

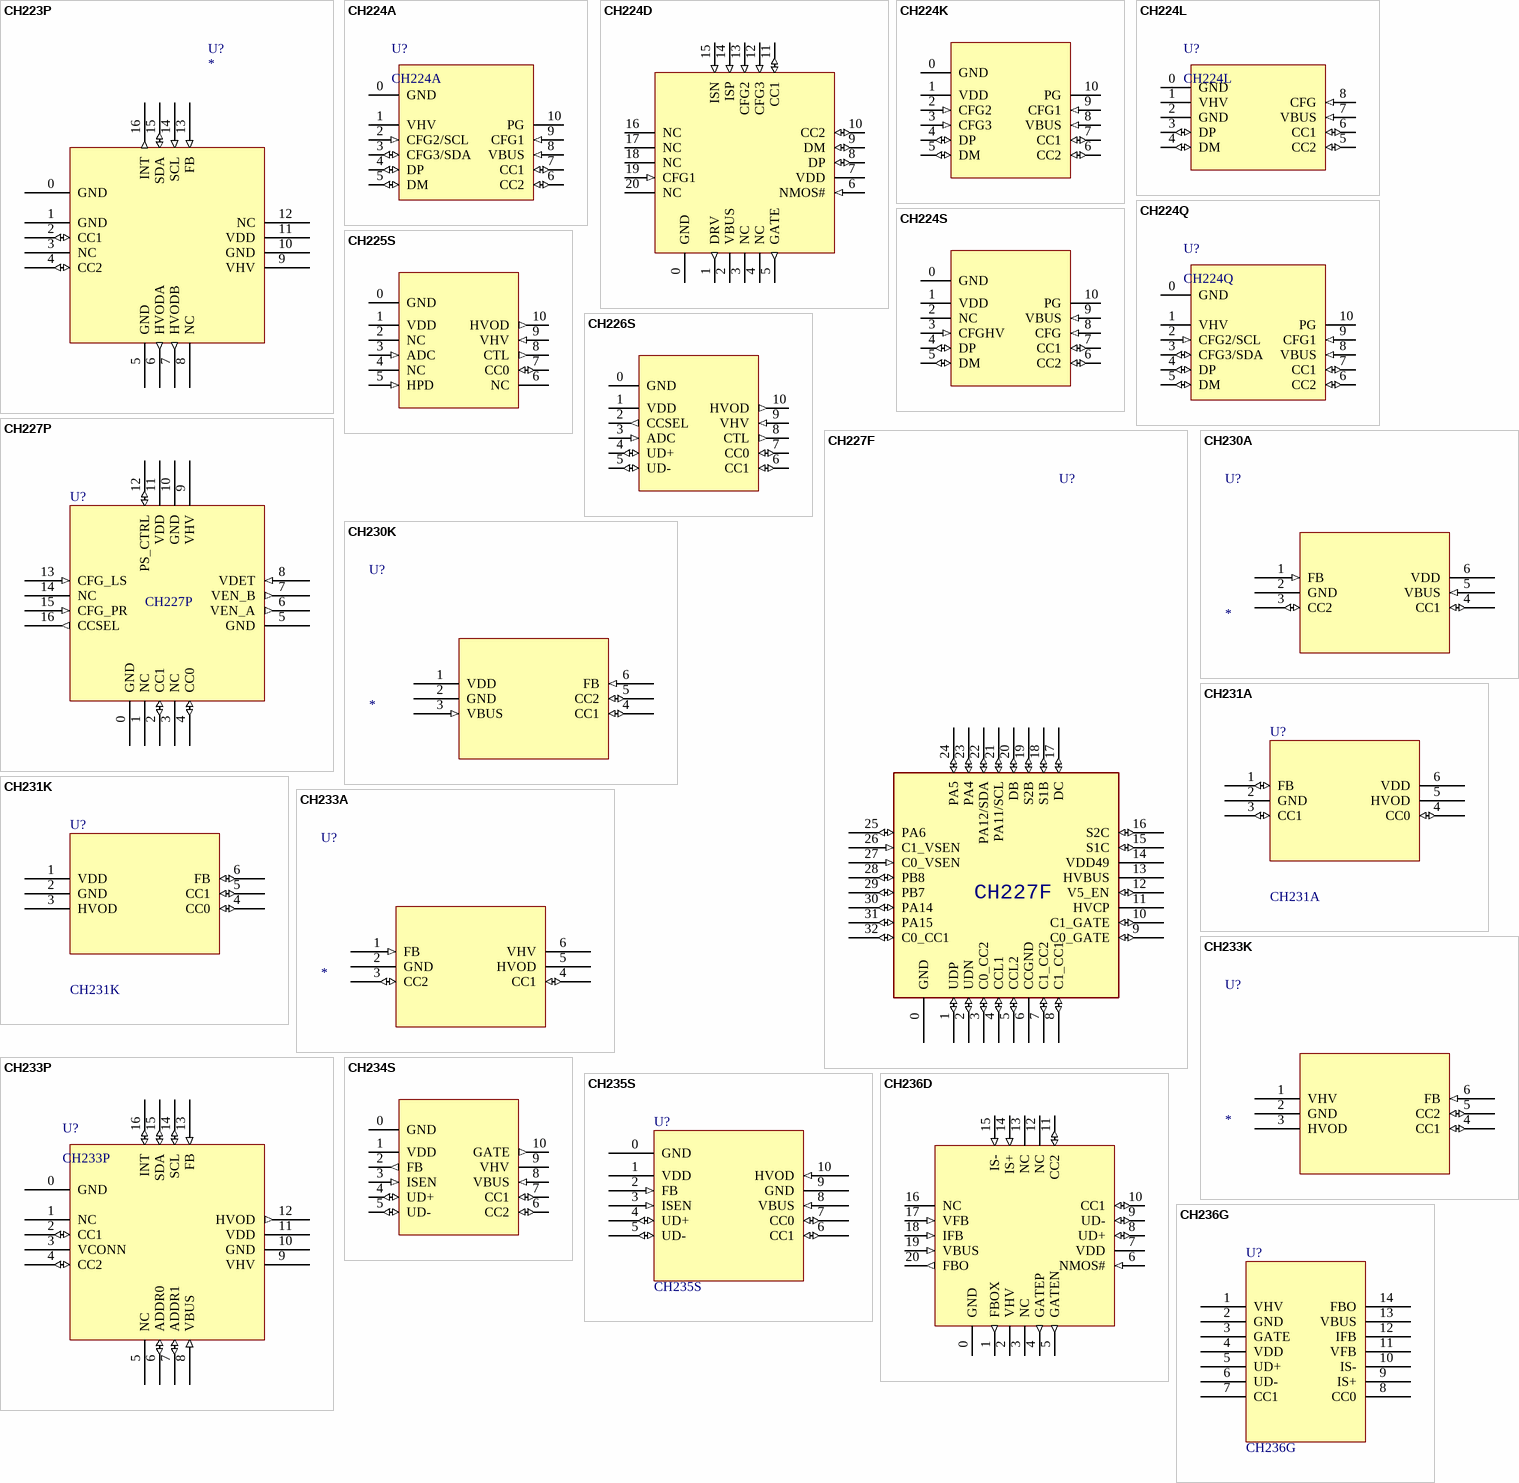
[diagram p22: symbols CH223P to CH236G]

## CH223P
designator U?
USB PD & Type-C Power Provider Controller
footprint QFN16_3X3
pins: 0 GND (power), 1 GND, 2 CC1 (io), 3 NC (power), 4 CC2 (io), 5 GND (power), 6 HVODA (out), 7 HVODB (out), 8 NC, 9 VHV (power), 10 GND (power), 11 VDD (power), 12 NC, 13 FB (in), 14 SCL (in), 15 SDA (io), 16 INT (out)

## CH224A
designator U?
USB PD & Type-C & Fast Charge Power Consumer Controller
footprint ESSOP10
pins: 0 GND (power), 1 VHV (power), 2 CFG2/SCL (in), 3 CFG3/SDA (io), 4 DP (io), 5 DM (io), 6 CC2 (io), 7 CC1 (io), 8 VBUS (in), 9 CFG1 (in), 10 PG

## CH224D
designator U?  (value not drawn)
USB PD & Type-C & Fast Charge Power Consumer Controller
footprint QFN20_3X3
pins: 0 GND (power), 1 DRV (out), 2 VBUS (power), 3 NC, 4 NC, 5 GATE (out), 6 NMOS# (in), 7 VDD (power), 8 DP (io), 9 DM (io), 10 CC2 (io), 11 CC1 (io), 12 CFG3 (in), 13 CFG2 (in), 14 ISP (in), 15 ISN (in), 16 NC, 17 NC, 18 NC, 19 CFG1 (in), 20 NC

## CH224K
designator U?  (value not drawn)
USB PD & Type-C & Fast Charge Power Consumer Controller
footprint ESSOP10
pins: 0 GND (power), 1 VDD (power), 2 CFG2 (in), 3 CFG3 (in), 4 DP (io), 5 DM (io), 6 CC2 (io), 7 CC1 (io), 8 VBUS (in), 9 CFG1 (in), 10 PG

## CH224L
designator U?
USB PD & Type-C & Fast Charge Power Consumer Controller
footprint DFN8_2x2
pins: 0 GND (power), 1 VHV (power), 2 GND (power), 3 DP (io), 4 DM (io), 5 CC2 (io), 6 CC1 (io), 7 VBUS (in), 8 CFG (in)

## CH224Q
designator U?
USB PD & Type-C & Fast Charge Power Consumer Controller
footprint DFN10_2X2 (Footprint not found)
pins: 0 GND (power), 1 VHV (power), 2 CFG2/SCL (in), 3 CFG3/SDA (io), 4 DP (io), 5 DM (io), 6 CC2 (io), 7 CC1 (io), 8 VBUS (in), 9 CFG1 (in), 10 PG

## CH224S
designator U?  (value not drawn)
USB PD & Type-C & Fast Charge Power Consumer Controller
footprint ESSOP10
pins: 0 GND (power), 1 VDD (power), 2 NC, 3 CFGHV (in), 4 DP (io), 5 DM (io), 6 CC2 (io), 7 CC1 (io), 8 CFG (in), 9 VBUS (in), 10 PG

## CH225S
designator U?  (value not drawn)
USB PD & Type-C & Fast Charge Power Consumer Controller
footprint ESSOP10
pins: 0 GND (power), 1 VDD (power), 2 NC, 3 ADC (in), 4 NC, 5 HPD (in), 6 NC, 7 CC0 (io), 8 CTL (out), 9 VHV (in), 10 HVOD (out)

## CH226S
designator U?  (value not drawn)
USB PD & Type-C & Fast Charge Power Consumer Controller
footprint ESSOP10
pins: 0 GND (power), 1 VDD (power), 2 CCSEL (out), 3 ADC (in), 4 UD+ (io), 5 UD- (io), 6 CC1 (io), 7 CC0 (io), 8 CTL (out), 9 VHV (in), 10 HVOD (out)

## CH227F
designator U?  (value not drawn)
USB PD & Type-C & Fast Charge Power Consumer Controller
footprint QFN32_4X4
pins: 0 GND (power), 1 UDP (io), 2 UDN (io), 3 C0_CC2 (io), 4 CCL1 (io), 5 CCL2 (io), 6 CCGND (power), 7 C1_CC2 (io), 8 C1_CC1 (io), 9 C0_GATE (io), 10 C1_GATE (io), 11 HVCP (power), 12 V5_EN (io), 13 HVBUS (power), 14 VDD49 (power), 15 S1C (io), 16 S2C (io), 17 DC (io), 18 S1B (io), 19 S2B (io), 20 DB (io), 21 PA11/SCL (io), 22 PA12/SDA (io), 23 PA4 (io), 24 PA5 (io), 25 PA6 (io), 26 C1_VSEN (in), 27 C0_VSEN (in), 28 PB8 (io), 29 PB7 (io), 30 PA14 (io), 31 PA15 (io), 32 C0_CC1 (io)

## CH227P
designator U?
USB PD & Type-C & Fast Charge Power Consumer Controller
footprint QFN16_3X3
pins: 0 GND (power), 1 NC, 2 CC1 (io), 3 NC, 4 CC0 (io), 5 GND (power), 6 VEN_A (out), 7 VEN_B (out), 8 VDET (in), 9 VHV (power), 10 GND (power), 11 VDD (power), 12 PS_CTRL (io), 13 CFG_LS (in), 14 NC, 15 CFG_PR (in), 16 CCSEL (out)

## CH230A
designator U?
USB PD & Type-C Power Provider Controller
footprint SOT-23-6
pins: 1 FB (in), 2 GND (power), 3 CC2 (io), 4 CC1 (io), 5 VBUS (in), 6 VDD (power)

## CH230K
designator U?
USB PD & Type-C Power Provider Controller
footprint SOT-23-6
pins: 1 VDD (power), 2 GND (power), 3 VBUS (in), 4 CC1 (io), 5 CC2 (io), 6 FB (in)

## CH231A
designator U?
USB PD & Type-C Power Provider Controller
footprint SOT-23-6
pins: 1 FB (io), 2 GND (power), 3 CC1 (io), 4 CC0 (io), 5 HVOD (oc), 6 VDD (power)

## CH231K
designator U?
USB PD & Type-C Power Provider Controller
footprint SOT-23-6
pins: 1 VDD (power), 2 GND (power), 3 HVOD (oc), 4 CC0 (io), 5 CC1 (io), 6 FB (io)

## CH233A
designator U?
USB PD & Type-C Power Provider Controller
footprint SOT-23-6
pins: 1 FB (in), 2 GND (power), 3 CC2 (io), 4 CC1 (io), 5 HVOD (oc), 6 VHV (power)

## CH233K
designator U?
USB PD & Type-C Power Provider Controller
footprint SOT-23-6
pins: 1 VHV (power), 2 GND (power), 3 HVOD (oc), 4 CC1 (io), 5 CC2 (io), 6 FB (in)

## CH233P
designator U?
USB PD & Type-C Power Provider Controller
footprint QFN16_3X3
pins: 0 GND (power), 1 NC, 2 CC1 (io), 3 VCONN (power), 4 CC2 (io), 5 NC, 6 ADDR0 (io), 7 ADDR1 (io), 8 VBUS (in), 9 VHV (power), 10 GND (power), 11 VDD (power), 12 HVOD (out), 13 FB (in), 14 SCL (io), 15 SDA (io), 16 INT (io)

## CH234S
designator U?  (value not drawn)
USB PD & Type-C & Fast Charge Power Provider Controller
footprint ESSOP10
pins: 0 GND (power), 1 VDD (power), 2 FB (out), 3 ISEN (in), 4 UD+ (io), 5 UD- (io), 6 CC2 (io), 7 CC1 (io), 8 VBUS (in), 9 VHV (power), 10 GATE (out)

## CH235S
designator U?
USB PD & Type-C & Fast Charge Power Provider Controller
footprint ESSOP10
pins: 0 GND (power), 1 VDD (power), 2 FB (in), 3 ISEN (in), 4 UD+ (io), 5 UD- (io), 6 CC1 (io), 7 CC0 (io), 8 VBUS (in), 9 GND (power), 10 HVOD (in)

## CH236D
designator U?  (value not drawn)
USB PD & Type-C & Fast Charge Power Provider Controller
footprint QFN20_3X3
pins: 0 GND (power), 1 FBOX (out), 2 VHV (power), 3 NC, 4 GATEP (out), 5 GATEN (out), 6 NMOS# (in), 7 VDD (power), 8 UD+ (io), 9 UD- (io), 10 CC1 (io), 11 CC2 (io), 12 NC, 13 NC, 14 IS+ (in), 15 IS- (in), 16 NC, 17 VFB (in), 18 IFB (in), 19 VBUS (in), 20 FBO (out)

## CH236G
designator U?
USB PD & Type-C & Fast Charge Power Provider Controller
footprint SOP14
pins: 1 VHV, 2 GND (power), 3 GATE, 4 VDD (power), 5 UD+, 6 UD-, 7 CC1, 8 CC0 (power), 9 IS+, 10 IS- (power), 11 VFB, 12 IFB, 13 VBUS, 14 FBO (power)

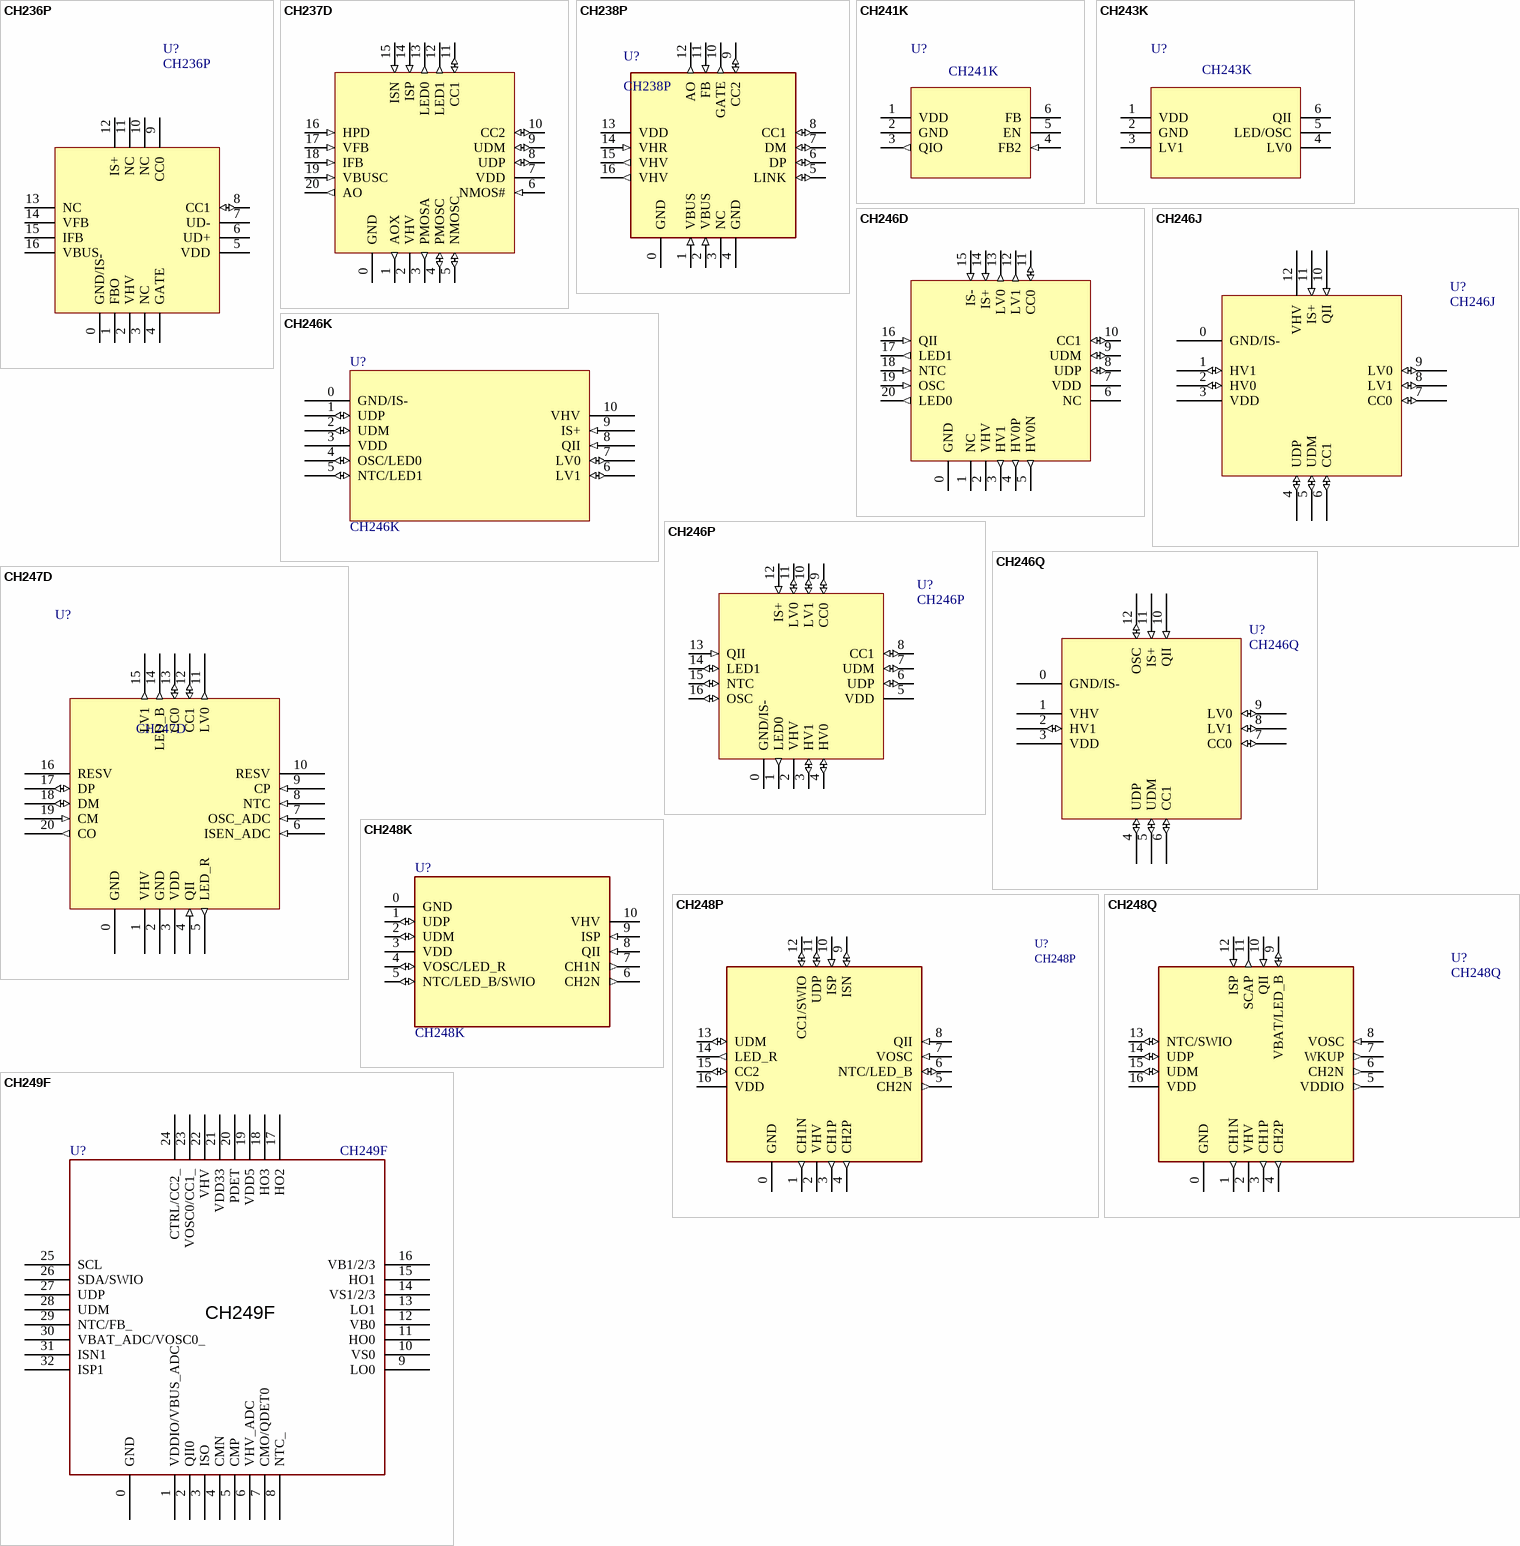
[diagram p23: symbols CH236P to CH249F]

## CH236P
designator U?
USB PD & Type-C & Fast Charge Power Provider Controller
footprint QFN16_3X3
pins: 0 GND/IS- (power), 1 FBO, 2 VHV (power), 3 NC, 4 GATE, 5 VDD (power), 6 UD+, 7 UD-, 8 CC1 (io), 9 CC0, 10 NC, 11 NC, 12 IS+, 13 NC, 14 VFB, 15 IFB, 16 VBUS

## CH237D
designator U?  (value not drawn)
USB PD & Type-C & Fast Charge Power Provider Controller, A+C
footprint QFN20_3X3
pins: 0 GND (power), 1 AOX (out), 2 VHV (power), 3 PMOSA (out), 4 PMOSC (io), 5 NMOSC (io), 6 NMOS# (in), 7 VDD (power), 8 UDP (io), 9 UDM (io), 10 CC2 (io), 11 CC1 (io), 12 LED1 (out), 13 LED0 (out), 14 ISP (in), 15 ISN (in), 16 HPD (in), 17 VFB (in), 18 IFB (in), 19 VBUSC (in), 20 AO (out)

## CH238P
designator U?
USB PD & Type-C & Fast Charge Power Provider Controller
footprint QFN16_3X3
pins: 0 GND, 1 VBUS (in), 2 VBUS (in), 3 NC, 4 GND, 5 LINK (io), 6 DP (io), 7 DM (io), 8 CC1 (io), 9 CC2 (io), 10 GATE (out), 11 FB (in), 12 AO (out), 13 VDD, 14 VHR (in), 15 VHV (out), 16 VHV (out)

## CH241K
designator U?
5W wireless power receiver IC
footprint SOT-23-6
pins: 1 VDD (power), 2 GND (power), 3 QIO (out), 4 FB2 (in), 5 EN (power), 6 FB

## CH243K
designator U?
5W wireless power transmitter IC
footprint SOT-23-6
pins: 1 VDD (power), 2 GND (power), 3 LV1, 4 LV0, 5 LED/OSC (power), 6 QII

## CH246D
designator U?  (value not drawn)
Wireless Charge Power Provider Controller with USB PD & Fast Charge Sink
footprint QFN20_3X3
pins: 0 GND (power), 1 NC, 2 VHV (power), 3 HV1 (out), 4 HV0P (out), 5 HV0N (out), 6 NC, 7 VDD (power), 8 UDP (io), 9 UDM (io), 10 CC1 (io), 11 CC0 (io), 12 LV1 (out), 13 LV0 (out), 14 IS+ (in), 15 IS- (in), 16 QII (in), 17 LED1 (out), 18 NTC (in), 19 OSC (in), 20 LED0 (out)

## CH246J
designator U?
Wireless Charge Power Provider Controller with USB PD & Fast Charge Sink
footprint QFN12_2X2
pins: 0 GND/IS- (power), 1 HV1 (io), 2 HV0 (io), 3 VDD (power), 4 UDP (io), 5 UDM (io), 6 CC1 (io), 7 CC0 (io), 8 LV1 (io), 9 LV0 (io), 10 QII (in), 11 IS+ (in), 12 VHV (power)

## CH246K
designator U?
Wireless Charge Power with X-drive
footprint ESSOP10
pins: 0 GND/IS- (power), 1 UDP (io), 2 UDM (io), 3 VDD (power), 4 OSC/LED0 (io), 5 NTC/LED1 (io), 6 LV1 (io), 7 LV0 (io), 8 QII (in), 9 IS+ (in), 10 VHV (power)

## CH246P
designator U?
Wireless Charge Power Provider Controller with USB PD & Fast Charge Sink
footprint QFN16_3X3
pins: 0 GND/IS- (power), 1 LED0 (out), 2 VHV (power), 3 HV1 (io), 4 HV0 (io), 5 VDD (power), 6 UDP (io), 7 UDM (io), 8 CC1 (io), 9 CC0 (io), 10 LV1 (io), 11 LV0 (io), 12 IS+ (in), 13 QII (in), 14 LED1 (io), 15 NTC (io), 16 OSC (io)

## CH246Q
designator U?
Wireless Charge Power with X-drive & PD Charge
footprint QFN12_2X2
pins: 0 GND/IS- (power), 1 VHV (power), 2 HV1 (io), 3 VDD (power), 4 UDP (io), 5 UDM (io), 6 CC1 (io), 7 CC0 (io), 8 LV1 (io), 9 LV0 (io), 10 QII (in), 11 IS+ (in), 12 OSC (io)

## CH247D
designator U?
Wireless Charge Power Provider Controller with USB PD & Fast Charge Sink
footprint QFN20_3X3
pins: 0 GND (power), 1 VHV (power), 2 GND (power), 3 VDD (power), 4 QII (in), 5 LED_R (out), 6 ISEN_ADC (in), 7 OSC_ADC (in), 8 NTC (in), 9 CP (in), 10 RESV, 11 LV0 (out), 12 CC1 (io), 13 CC0 (io), 14 LED_B (out), 15 LV1 (out), 16 RESV, 17 DP (io), 18 DM (io), 19 CM (in), 20 CO (out)

## CH248K
designator U?
RISC-V MCU with PD/ADC/UART/OA, for wireless charging
footprint ESSOP10
pins: 0 GND (power), 1 UDP (io), 2 UDM (io), 3 VDD (power), 4 VOSC/LED_R (io), 5 NTC/LED_B/SWIO (io), 6 CH2N (out), 7 CH1N (out), 8 QII (in), 9 ISP (in), 10 VHV (power)

## CH248P
designator U?
RISC-V MCU with PD/ADC/UART/OA, for wireless charging
footprint QFN16_3X3
pins: 0 GND (power), 1 CH1N (out), 2 VHV (power), 3 CH1P (out), 4 CH2P (out), 5 CH2N (out), 6 NTC/LED_B (io), 7 VOSC (in), 8 QII (in), 9 ISN (io), 10 ISP (in), 11 UDP (io), 12 CC1/SWIO (io), 13 UDM (io), 14 LED_R (out), 15 CC2 (io), 16 VDD (power)

## CH248Q
designator U?
RISC-V MCU with ADC/UART/OA
footprint QFN16_3X3
pins: 0 GND (power), 1 CH1N (out), 2 VHV (power), 3 CH1P (out), 4 CH2P (out), 5 VDDIO (out), 6 CH2N (out), 7 WKUP (out), 8 VOSC (in), 9 VBAT/LED_B (io), 10 QII (in), 11 SCAP (out), 12 ISP (in), 13 NTC/SWIO (io), 14 UDP (io), 15 UDM (io), 16 VDD (power)

## CH249F
designator U?
Wireless charging transmitter, supporting MPP, EPP, BPP, earphones, smartwatches, and other devices.
footprint QFN32_4X4
pins: 0 GND (power), 1 VDDIO/VBUS_ADC, 2 QII0, 3 ISO, 4 CMN, 5 CMP, 6 VHV_ADC, 7 CMO/QDET0, 8 NTC_, 9 LO0, 10 VS0, 11 HO0, 12 VB0, 13 LO1, 14 VS1/2/3, 15 HO1, 16 VB1/2/3, 17 HO2, 18 HO3, 19 VDD5 (power), 20 PDET, 21 VDD33 (power), 22 VHV (power), 23 VOSC0/CC1_, 24 CTRL/CC2_, 25 SCL, 26 SDA/SWIO, 27 UDP, 28 UDM, 29 NTC/FB_, 30 VBAT_ADC/VOSC0_, 31 ISN1, 32 ISP1

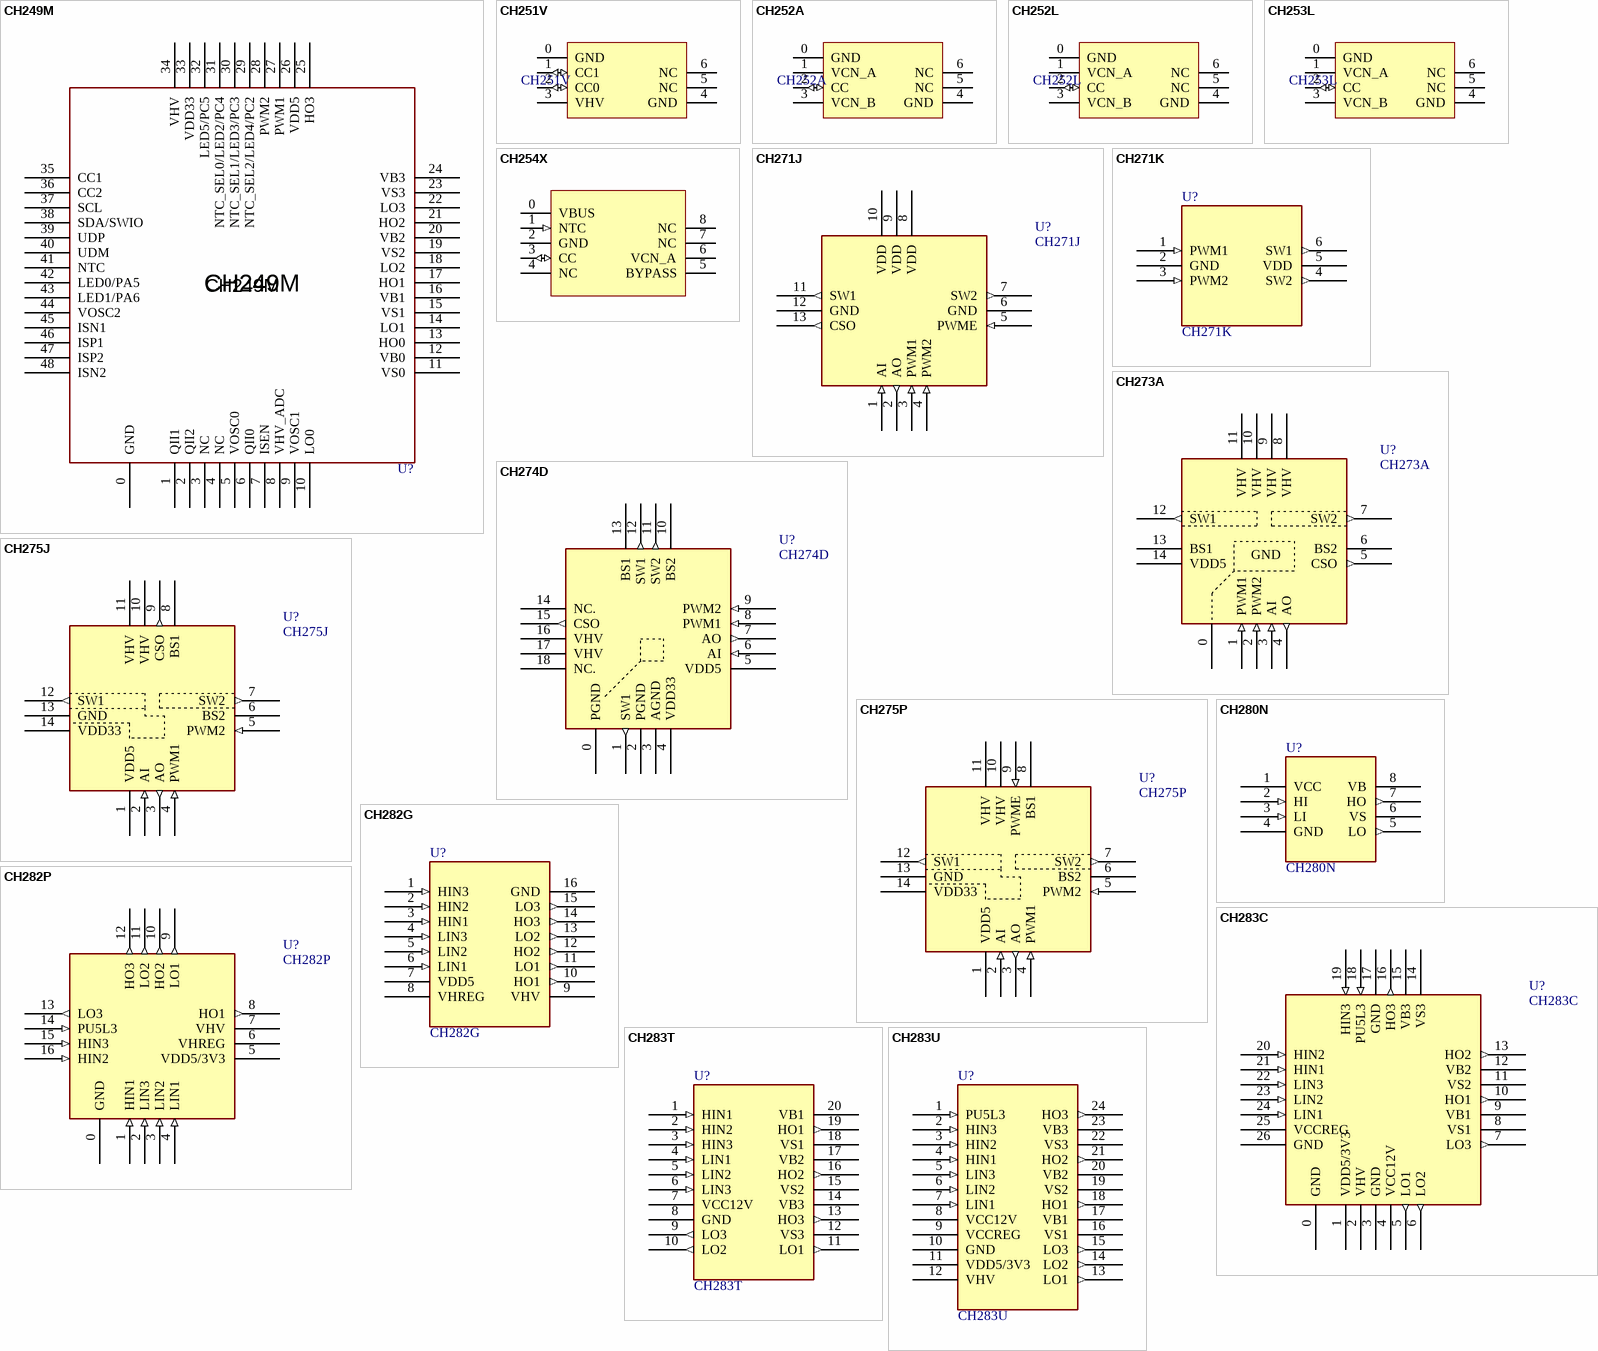
[diagram p24: symbols CH249M to CH283U]

## CH249M
designator U?
Wireless charging transmitter, supporting EPP, BPP, earphones, smartwatches, and other devices，supporting three-way simultaneous charging.
footprint QFN48_5X5
pins: 0 GND (power), 1 QII1 (hiz), 2 QII2, 3 NC (hiz), 4 NC (hiz), 5 VOSC0 (hiz), 6 QII0 (hiz), 7 ISEN (hiz), 8 VHV_ADC (hiz), 9 VOSC1 (hiz), 10 LO0 (hiz), 11 VS0 (hiz), 12 VB0 (hiz), 13 HO0 (hiz), 14 LO1 (hiz), 15 VS1 (hiz), 16 VB1 (hiz), 17 HO1 (hiz), 18 LO2 (hiz), 19 VS2, 20 VB2 (hiz), 21 HO2 (hiz), 22 LO3 (hiz), 23 VS3 (hiz), 24 VB3 (hiz), 25 HO3 (hiz), 26 VDD5 (power), 27 PWM1 (hiz), 28 PWM2 (hiz), 29 NTC_SEL2/LED4/PC2 (hiz), 30 NTC_SEL1/LED3/PC3 (hiz), 31 NTC_SEL0/LED2/PC4 (hiz), 32 LED5/PC5 (oc), 33 VDD33 (hiz), 34 VHV (power), 35 CC1 (hiz), 36 CC2 (hiz), 37 SCL, 38 SDA/SWIO (hiz), 39 UDP, 40 UDM, 41 NTC, 42 LED0/PA5 (hiz), 43 LED1/PA6, 44 VOSC2, 45 ISN1 (hiz), 46 ISP1 (hiz), 47 ISP2 (hiz), 48 ISN2 (hiz)

## CH251V
designator U?
USB Type-C cable E-Marker
footprint DFN6_2X2
pins: 0 GND (power), 1 CC1 (io), 2 CC0 (io), 3 VHV (power), 4 GND (power), 5 NC, 6 NC

## CH252A
designator U?
USB Type-C cable E-Marker
footprint DFN6_2X2
pins: 0 GND (power), 1 VCN_A (power), 2 CC (io), 3 VCN_B (power), 4 GND (power), 5 NC, 6 NC

## CH252L
designator U?
USB Type-C cable E-Marker
footprint DFN6_2X2
pins: 0 GND (power), 1 VCN_A (power), 2 CC (io), 3 VCN_B (power), 4 GND (power), 5 NC, 6 NC

## CH253L
designator U?
USB Type-C cable E-Marker
footprint DFN6_2X2
pins: 0 GND (power), 1 VCN_A (power), 2 CC (io), 3 VCN_B (power), 4 GND (power), 5 NC, 6 NC

## CH254X
designator U?  (value not drawn)
USB Type-C cable E-Marker with over temperature protection
footprint DFN8_2x2 (Footprint not found)
pins: 0 VBUS (power), 1 NTC (in), 2 GND (power), 3 CC (io), 4 NC, 5 BYPASS (power), 6 VCN_A (power), 7 NC, 8 NC

## CH271J
designator U?
5V Full-Bridge Power Stage for Wireless Power Transmitter
footprint QFN13F_2X2 (Footprint not found)
pins: 1 AI (in), 2 AO (out), 3 PWM1 (in), 4 PWM2 (in), 5 PWME (in), 6 GND (power), 7 SW2 (out), 8 VDD (power), 9 VDD (power), 10 VDD (power), 11 SW1 (out), 12 GND (power), 13 CSO (out)

## CH271K
designator U?
5V Full-Bridge Power Stage
footprint SOT-23-6
pins: 1 PWM1 (in), 2 GND (power), 3 PWM2 (in), 4 SW2 (out), 5 VDD (power), 6 SW1 (out)

## CH273A
designator U?
12V Full-Bridge Power Stage for Wireless Power Transmitter
footprint QFN14E_2X2 (Footprint not found)
pins: 0 (power), 1 PWM1 (in), 2 PWM2 (in), 3 AI (in), 4 AO (out), 5 CSO (out), 6 BS2 (power), 7 SW2 (out), 8 VHV (power), 9 VHV (power), 10 VHV (power), 11 VHV (power), 12 SW1 (out), 13 BS1 (power), 14 VDD5 (power)
text: GND

## CH274D
designator U?
12V Full-Bridge Power Stage for Wireless Power Transmitter
footprint QFN18E_3X3
pins: 0 PGND (power), 1 SW1 (out), 2 PGND (power), 3 AGND (power), 4 VDD33 (power), 5 VDD5 (power), 6 AI (in), 7 AO (out), 8 PWM1 (in), 9 PWM2 (in), 10 BS2 (power), 11 SW2 (out), 12 SW1 (out), 13 BS1 (power), 14 NC., 15 CSO (out), 16 VHV (power), 17 VHV (power), 18 NC.

## CH275J
designator U?
20V Full-Bridge Power Stage for Wireless Power Transmitter
footprint QFN14F_3X3 (Footprint not found)
pins: 1 VDD5 (power), 2 AI (in), 3 AO (out), 4 PWM1 (in), 5 PWM2 (in), 6 BS2 (power), 7 SW2 (out), 8 BS1 (power), 9 CSO (out), 10 VHV (power), 11 VHV (power), 12 SW1 (out), 13 GND (power), 14 VDD33 (power)

## CH275P
designator U?
20V Full-Bridge Power Stage for Wireless Power Transmitter
footprint QFN14F_3X3 (Footprint not found)
pins: 1 VDD5 (power), 2 AI (in), 3 AO (out), 4 PWM1 (in), 5 PWM2 (in), 6 BS2 (power), 7 SW2 (out), 8 BS1 (power), 9 PWME (in), 10 VHV (power), 11 VHV (power), 12 SW1 (out), 13 GND (power), 14 VDD33 (power)

## CH280N
designator U?
NMOS half-bridge gate driver
footprint SOP8
pins: 1 VCC (power), 2 HI (in), 3 LI (in), 4 GND (power), 5 LO (out), 6 VS (power), 7 HO (out), 8 VB (power)

## CH282G
designator U?
three-phase P/NMOS gate driver with LDO
footprint SOP16
pins: 1 HIN3 (in), 2 HIN2 (in), 3 HIN1 (in), 4 LIN3 (in), 5 LIN2 (in), 6 LIN1 (in), 7 VDD5 (power), 8 VHREG (power), 9 VHV (power), 10 HO1 (out), 11 LO1 (out), 12 HO2 (out), 13 LO2 (out), 14 HO3 (out), 15 LO3 (out), 16 GND (power)

## CH282P
designator U?
three-phase P/NMOS gate driver with LDO
footprint QFN16_3X3
pins: 0 GND (power), 1 HIN1 (in), 2 LIN3 (in), 3 LIN2 (in), 4 LIN1 (in), 5 VDD5/3V3 (power), 6 VHREG (power), 7 VHV (power), 8 HO1 (out), 9 LO1 (out), 10 HO2 (out), 11 LO2 (out), 12 HO3 (out), 13 LO3 (out), 14 PU5L3 (in), 15 HIN3 (in), 16 HIN2 (in)

## CH283C
designator U?
three-phase NMOS gate driver with LDO
footprint QFN26C_3X3
pins: 0 GND (power), 1 VDD5/3V3 (power), 2 VHV (power), 3 GND (power), 4 VCC12V (power), 5 LO1 (out), 6 LO2 (out), 7 LO3 (out), 8 VS1 (power), 9 VB1 (power), 10 HO1 (out), 11 VS2 (power), 12 VB2 (power), 13 HO2 (out), 14 VS3 (power), 15 VB3 (power), 16 HO3 (out), 17 GND (power), 18 PU5L3 (in), 19 HIN3 (in), 20 HIN2 (in), 21 HIN1 (in), 22 LIN3 (in), 23 LIN2 (in), 24 LIN1 (in), 25 VCCREG (power), 26 GND (power)

## CH283T
designator U?
three-phase NMOS gate driver
footprint TSSOP20
pins: 1 HIN1 (in), 2 HIN2 (in), 3 HIN3 (in), 4 LIN1 (in), 5 LIN2 (in), 6 LIN3 (in), 7 VCC12V (power), 8 GND (power), 9 LO3 (out), 10 LO2 (out), 11 LO1 (out), 12 VS3 (power), 13 HO3 (out), 14 VB3 (power), 15 VS2 (power), 16 HO2 (out), 17 VB2 (power), 18 VS1 (power), 19 HO1 (out), 20 VB1 (power)

## CH283U
designator U?
three-phase NMOS gate driver with LDO
footprint QSOP24
pins: 1 PU5L3 (in), 2 HIN3 (in), 3 HIN2 (in), 4 HIN1 (in), 5 LIN3 (in), 6 LIN2 (in), 7 LIN1 (in), 8 VCC12V (power), 9 VCCREG (power), 10 GND (power), 11 VDD5/3V3 (power), 12 VHV (power), 13 LO1 (out), 14 LO2 (out), 15 LO3 (out), 16 VS1 (power), 17 VB1 (power), 18 HO1 (out), 19 VS2 (power), 20 VB2 (power), 21 HO2 (out), 22 VS3 (power), 23 VB3 (power), 24 HO3 (out)

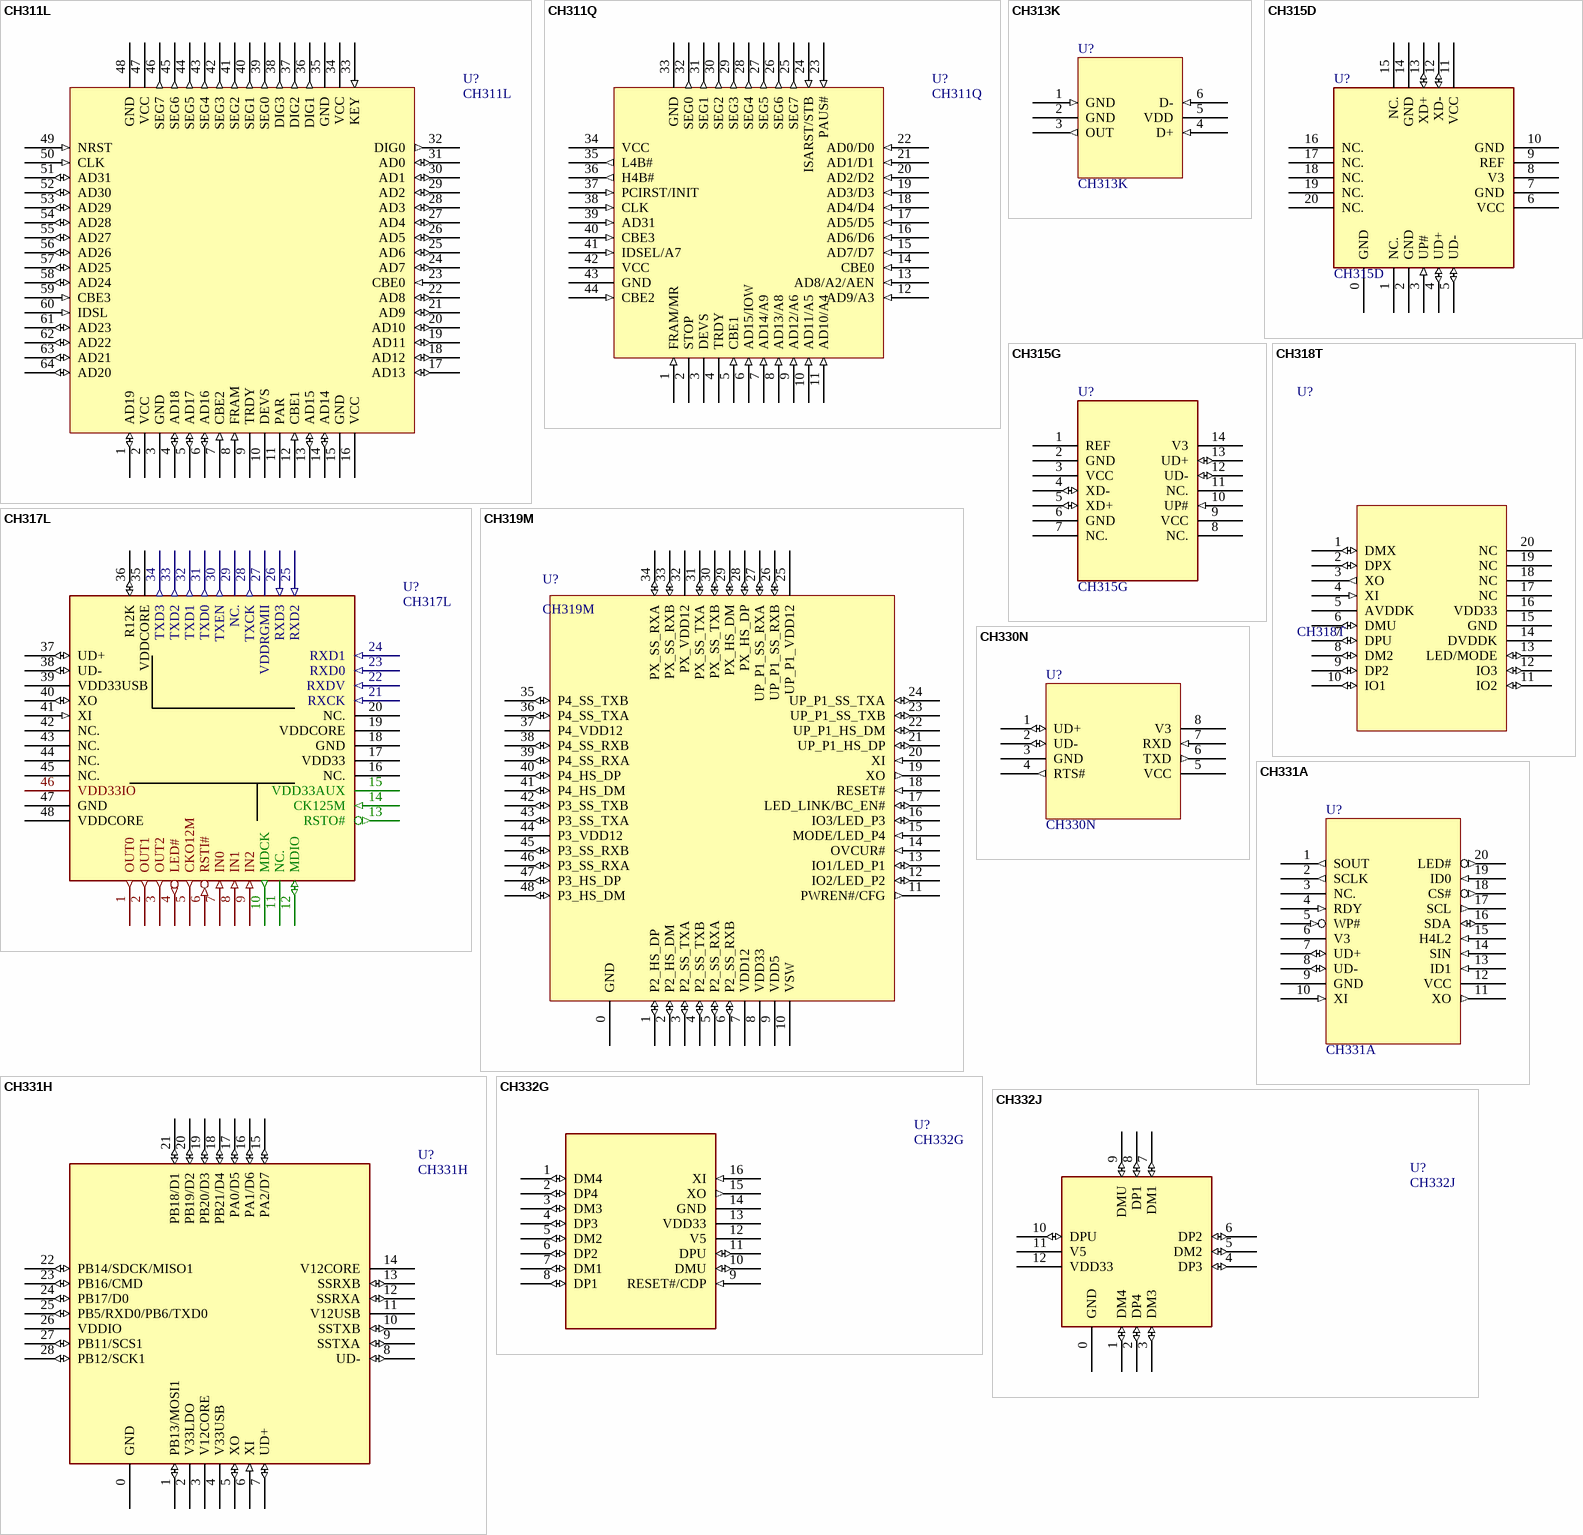
[diagram p25: symbols CH311L to CH332J]

## CH311L
designator U?
PC debug port monitor, 4 Digits * 8 Segments, PCI
footprint LQFP64
pins: 1 AD19 (io), 2 VCC (power), 3 GND (power), 4 AD18 (io), 5 AD17 (io), 6 AD16 (io), 7 CBE2 (in), 8 FRAM (in), 9 TRDY (hiz), 10 DEVS (hiz), 11 PAR (hiz), 12 CBE1 (in), 13 AD15 (io), 14 AD14 (io), 15 GND (power), 16 VCC (power), 17 AD13 (io), 18 AD12 (io), 19 AD11 (io), 20 AD10 (io), 21 AD9 (io), 22 AD8 (io), 23 CBE0 (in), 24 AD7 (io), 25 AD6 (io), 26 AD5 (io), 27 AD4 (io), 28 AD3 (io), 29 AD2 (io), 30 AD1 (io), 31 AD0 (io), 32 DIG0 (out), 33 KEY (in), 34 VCC (power), 35 GND (power), 36 DIG1 (out), 37 DIG2 (out), 38 DIG3 (out), 39 SEG0 (out), 40 SEG1 (out), 41 SEG2 (out), 42 SEG3 (out), 43 SEG4 (out), 44 SEG5 (out), 45 SEG6 (out), 46 SEG7 (out), 47 VCC (power), 48 GND (power), 49 NRST (in), 50 CLK (in), 51 AD31 (io), 52 AD30 (io), 53 AD29 (io), 54 AD28 (io), 55 AD27 (io), 56 AD26 (io), 57 AD25 (io), 58 AD24 (io), 59 CBE3 (in), 60 IDSL (in), 61 AD23 (io), 62 AD22 (io), 63 AD21 (io), 64 AD20 (io)

## CH311Q
designator U?
PC debug port monitor, 2 Digits * 8 Segments, PCI & ISA & LPT
footprint LQFP44
pins: 1 FRAM/MR (in), 2 STOP (hiz), 3 DEVS (hiz), 4 TRDY (hiz), 5 CBE1 (in), 6 AD15/IOW (in), 7 AD14/A9 (in), 8 AD13/A8 (in), 9 AD12/A6 (in), 10 AD11/A5 (in), 11 AD10/A4 (in), 12 AD9/A3 (in), 13 AD8/A2/AEN (in), 14 CBE0 (in), 15 AD7/D7 (in), 16 AD6/D6 (in), 17 AD5/D5 (in), 18 AD4/D4 (in), 19 AD3/D3 (in), 20 AD2/D2 (in), 21 AD1/D1 (in), 22 AD0/D0 (in), 23 PAUS# (in), 24 ISARST/STB (in), 25 SEG7 (out), 26 SEG6 (out), 27 SEG5 (out), 28 SEG4 (out), 29 SEG3 (out), 30 SEG2 (out), 31 SEG1 (out), 32 SEG0 (out), 33 GND (power), 34 VCC (power), 35 L4B# (out), 36 H4B# (out), 37 PCIRST/INIT (in), 38 CLK (in), 39 AD31 (in), 40 CBE3 (in), 41 IDSEL/A7 (in), 42 VCC (power), 43 GND (power), 44 CBE2 (in)

## CH313K
designator U?
USB transfer detection
footprint SOT-363
pins: 1 GND (in), 2 GND (power), 3 OUT (out), 4 D+ (in), 5 VDD (power), 6 D- (in)

## CH315D
designator U?
USB lengthen wire controller, Full-Speed & Low-Speed
footprint QFN20_3X3 (Footprint not found)
pins: 0 GND (power), 1 NC., 2 GND (power), 3 UP# (in), 4 UD+ (io), 5 UD- (io), 6 VCC (power), 7 GND (power), 8 V3 (power), 9 REF (power), 10 GND (power), 11 VCC (power), 12 XD- (io), 13 XD+ (io), 14 GND (power), 15 NC., 16 NC., 17 NC., 18 NC., 19 NC., 20 NC.

## CH315G
designator U?
USB lengthen wire controller, Full-Speed & Low-Speed
footprint SOP14
pins: 1 REF (power), 2 GND (power), 3 VCC (power), 4 XD- (io), 5 XD+ (io), 6 GND (power), 7 NC., 8 NC., 9 VCC (power), 10 UP# (in), 11 NC., 12 UD- (io), 13 UD+ (io), 14 V3 (power)

## CH317L
designator U?
High-Speed USB lengthen wire controller for longer distance
footprint LQFP48
pins: 1 OUT0 (out), 2 OUT1 (out), 3 OUT2 (out), 4 LED# (out), 5 CKO12M (out), 6 RSTI# (in), 7 IN0 (in), 8 IN1 (in), 9 IN2 (in), 10 MDCK (out), 11 NC., 12 MDIO (io), 13 RSTO# (out), 14 CK125M (in), 15 VDD33AUX (power), 16 NC., 17 VDD33 (power), 18 GND (power), 19 VDDCORE (power), 20 NC., 21 RXCK (in), 22 RXDV (in), 23 RXD0 (in), 24 RXD1 (in), 25 RXD2 (in), 26 RXD3 (in), 27 VDDRGMII (power), 28 TXCK (out), 29 NC., 30 TXEN (out), 31 TXD0 (out), 32 TXD1 (out), 33 TXD2 (out), 34 TXD3 (out), 35 VDDCORE (power), 36 R12K (io), 37 UD+ (io), 38 UD- (io), 39 VDD33USB (power), 40 XO (io), 41 XI (in), 42 NC., 43 NC., 44 NC., 45 NC., 46 VDD33IO (power), 47 GND (power), 48 VDDCORE (power)

## CH318T
designator U?
2 ports High-Speed USB Hub Isolator
footprint TSSOP20
pins: 1 DMX (io), 2 DPX (io), 3 XO (out), 4 XI (in), 5 AVDDK (power), 6 DMU (io), 7 DPU (io), 8 DM2 (io), 9 DP2 (io), 10 IO1 (io), 11 IO2 (io), 12 IO3 (io), 13 LED/MODE (io), 14 DVDDK (power), 15 GND (power), 16 VDD33 (power), 17 NC, 18 NC, 19 NC, 20 NC

## CH319M
designator U?
USB SuperSpeed signal high-voltage isolation and transmission distance extension control chip
footprint QFN48_5X5
pins: 0 GND (power), 1 P2_HS_DP (io), 2 P2_HS_DM (io), 3 P2_SS_TXA (io), 4 P2_SS_TXB (io), 5 P2_SS_RXA (io), 6 P2_SS_RXB (io), 7 VDD12 (power), 8 VDD33 (power), 9 VDD5 (power), 10 VSW (power), 11 PWREN#/CFG (out), 12 IO2/LED_P2 (io), 13 IO1/LED_P1 (io), 14 OVCUR# (in), 15 MODE/LED_P4 (in), 16 IO3/LED_P3 (io), 17 LED_LINK/BC_EN# (io), 18 RESET# (in), 19 XO (out), 20 XI (in), 21 UP_P1_HS_DP (io), 22 UP_P1_HS_DM (io), 23 UP_P1_SS_TXB (io), 24 UP_P1_SS_TXA (io), 25 UP_P1_VDD12 (power), 26 UP_P1_SS_RXB (io), 27 UP_P1_SS_RXA (io), 28 PX_HS_DP (io), 29 PX_HS_DM (io), 30 PX_SS_TXB (io), 31 PX_SS_TXA (io), 32 PX_VDD12 (power), 33 PX_SS_RXB (io), 34 PX_SS_RXA (io), 35 P4_SS_TXB (io), 36 P4_SS_TXA (io), 37 P4_VDD12 (power), 38 P4_SS_RXB (io), 39 P4_SS_RXA (io), 40 P4_HS_DP (io), 41 P4_HS_DM (io), 42 P3_SS_TXB (io), 43 P3_SS_TXA (io), 44 P3_VDD12 (power), 45 P3_SS_RXB (io), 46 P3_SS_RXA (io), 47 P3_HS_DP (io), 48 P3_HS_DM (io)

## CH330N
designator U?
USB to TTL Serial / UART
footprint SOP8
pins: 1 UD+ (io), 2 UD- (io), 3 GND (power), 4 RTS# (out), 5 VCC (power), 6 TXD (out), 7 RXD (in), 8 V3 (power)

## CH331A
designator U?
Mini USB Disk Controller for serial EEPROM or Flash
footprint SSOP20
pins: 1 SOUT (out), 2 SCLK (out), 3 NC., 4 RDY (in), 5 WP# (in), 6 V3 (power), 7 UD+ (io), 8 UD- (io), 9 GND (power), 10 XI (in), 11 XO (out), 12 VCC (power), 13 ID1 (in), 14 SIN (in), 15 H4L2 (in), 16 SDA (io), 17 SCL (out), 18 CS# (out), 19 ID0 (in), 20 LED# (out)

## CH331H
designator U?
RISC-V USB 3.0 Disk Controller with AES/SM4
footprint QFN28_5X5
pins: 0 GND (power), 1 PB13/MOSI1 (io), 2 V33LDO (power), 3 V12CORE (power), 4 V33USB (power), 5 XO (io), 6 XI (in), 7 UD+ (io), 8 UD- (io), 9 SSTXA (io), 10 SSTXB (io), 11 V12USB (power), 12 SSRXA (io), 13 SSRXB (io), 14 V12CORE (power), 15 PA2/D7 (io), 16 PA1/D6 (io), 17 PA0/D5 (io), 18 PB21/D4 (io), 19 PB20/D3 (io), 20 PB19/D2 (io), 21 PB18/D1 (io), 22 PB14/SDCK/MISO1 (io), 23 PB16/CMD (io), 24 PB17/D0 (io), 25 PB5/RXD0/PB6/TXD0 (io), 26 VDDIO (power), 27 PB11/SCS1 (io), 28 PB12/SCK1 (io)

## CH332G
designator U?
4 ports High-Speed USB STT Hub
footprint SOP16 (Footprint not found)
pins: 1 DM4 (io), 2 DP4 (io), 3 DM3 (io), 4 DP3 (io), 5 DM2 (io), 6 DP2 (io), 7 DM1 (io), 8 DP1 (io), 9 RESET#/CDP (in), 10 DMU (io), 11 DPU (io), 12 V5 (power), 13 VDD33 (power), 14 GND (power), 15 XO (out), 16 XI (in)

## CH332J
designator U?
4 ports High-Speed USB STT Hub with internal oscillator
footprint QFN12_2X2
pins: 0 GND (power), 1 DM4 (io), 2 DP4 (io), 3 DM3 (io), 4 DP3 (io), 5 DM2 (io), 6 DP2 (io), 7 DM1 (io), 8 DP1 (io), 9 DMU (io), 10 DPU (io), 11 V5 (power), 12 VDD33 (power)

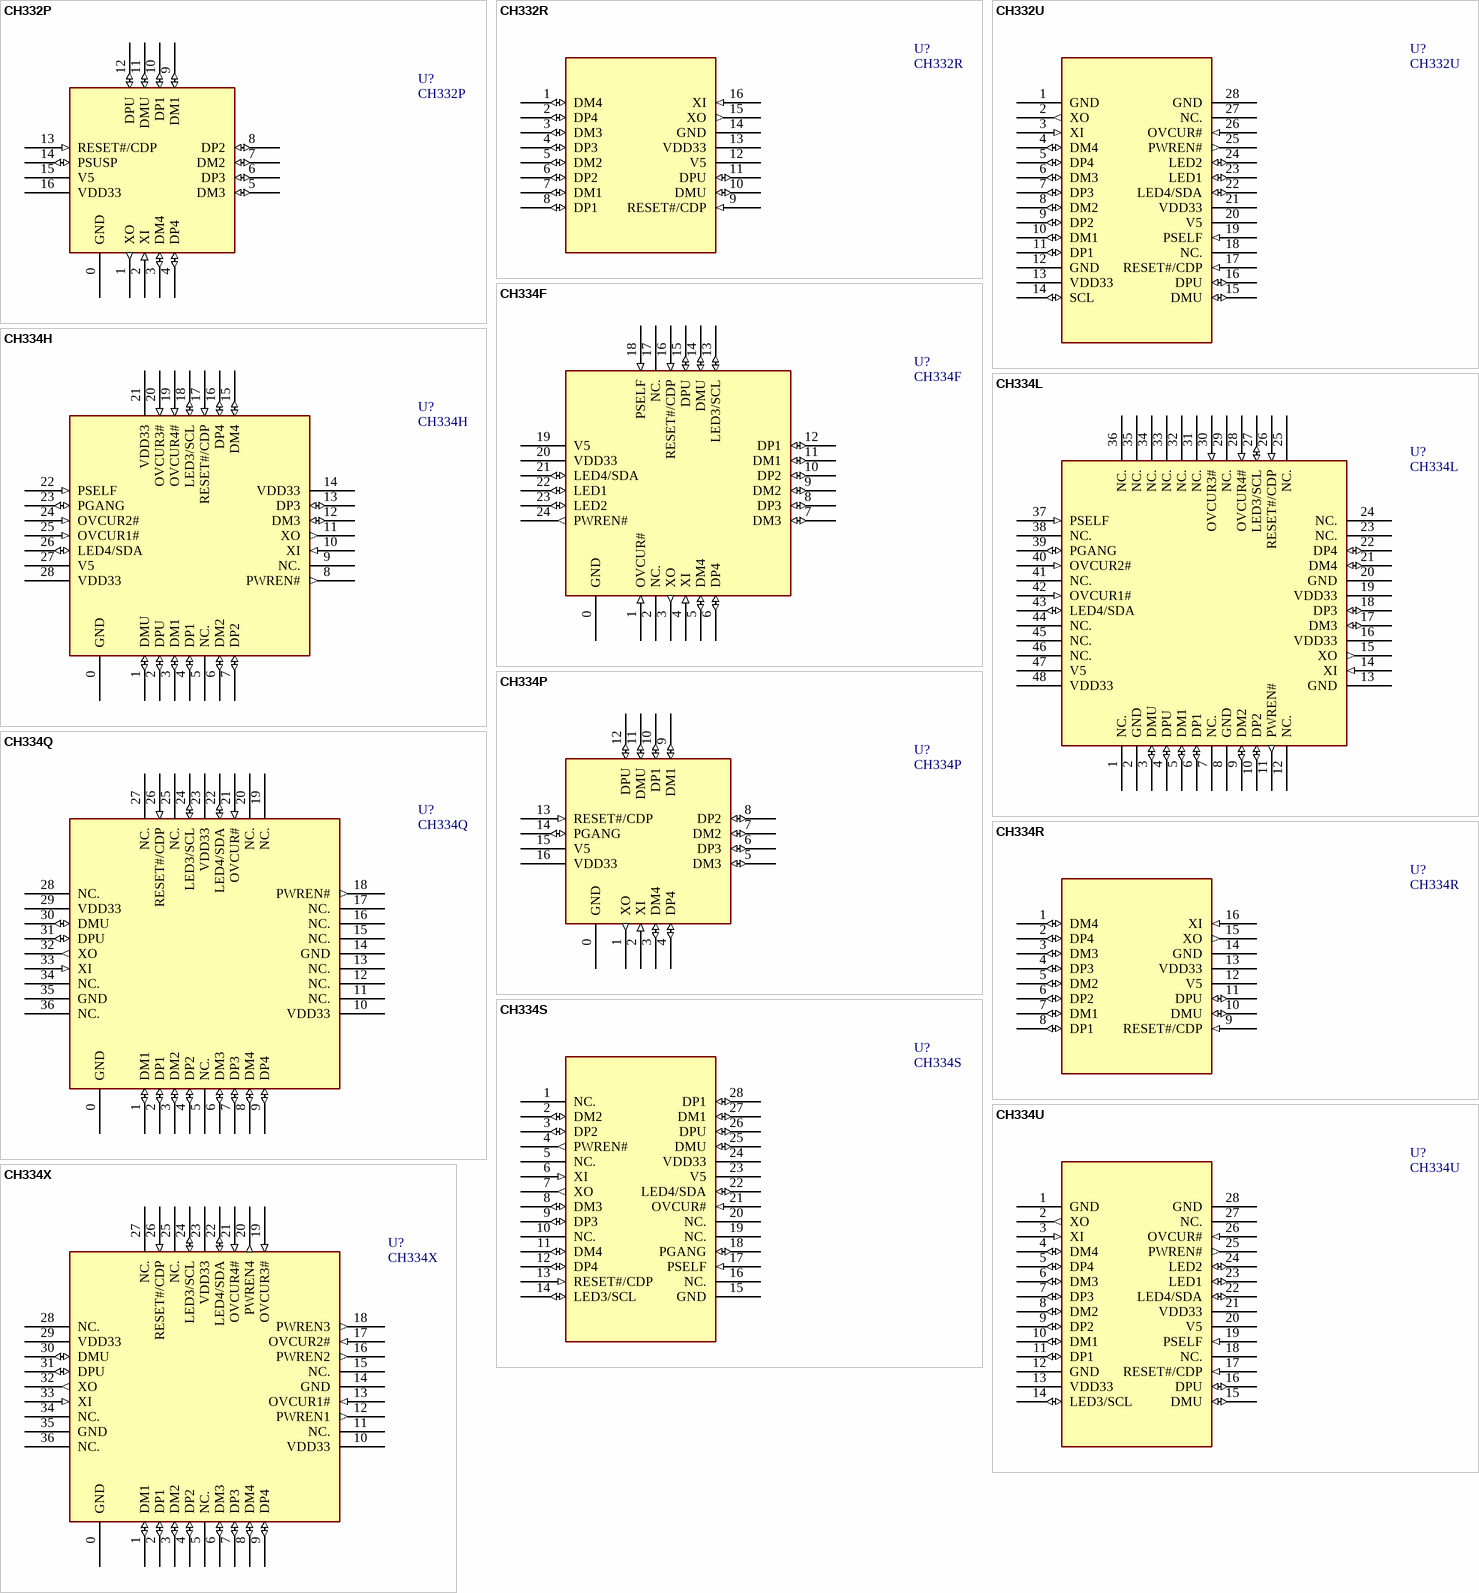
[diagram p26: symbols CH332P to CH334X]

## CH332P
designator U?
4 ports High-Speed USB STT Hub
footprint QFN16_3X3 (Footprint not found)
pins: 0 GND (power), 1 XO (out), 2 XI (in), 3 DM4 (io), 4 DP4 (io), 5 DM3 (io), 6 DP3 (io), 7 DM2 (io), 8 DP2 (io), 9 DM1 (io), 10 DP1 (io), 11 DMU (io), 12 DPU (io), 13 RESET#/CDP (in), 14 PSUSP (io), 15 V5 (power), 16 VDD33 (power)

## CH332R
designator U?
4 ports High-Speed USB STT Hub
footprint QSOP16 (Footprint not found)
pins: 1 DM4 (io), 2 DP4 (io), 3 DM3 (io), 4 DP3 (io), 5 DM2 (io), 6 DP2 (io), 7 DM1 (io), 8 DP1 (io), 9 RESET#/CDP (in), 10 DMU (io), 11 DPU (io), 12 V5 (power), 13 VDD33 (power), 14 GND (power), 15 XO (out), 16 XI (in)

## CH332U
designator U?
4 ports High-Speed USB STT Hub with over current detect & power control
footprint QSOP28 (Footprint not found)
pins: 1 GND (power), 2 XO (out), 3 XI (in), 4 DM4 (io), 5 DP4 (io), 6 DM3 (io), 7 DP3 (io), 8 DM2 (io), 9 DP2 (io), 10 DM1 (io), 11 DP1 (io), 12 GND (power), 13 VDD33 (power), 14 SCL (io), 15 DMU (io), 16 DPU (io), 17 RESET#/CDP (in), 18 NC., 19 PSELF (in), 20 V5 (power), 21 VDD33 (power), 22 LED4/SDA (io), 23 LED1 (io), 24 LED2 (io), 25 PWREN# (out), 26 OVCUR# (in), 27 NC., 28 GND (power)

## CH334F
designator U?
4 ports High-Speed USB MTT Hub with over current detect & power control
footprint QFN24_4X4 (Footprint not found)
pins: 0 GND (power), 1 OVCUR# (in), 2 NC., 3 XO (out), 4 XI (in), 5 DM4 (io), 6 DP4 (io), 7 DM3 (io), 8 DP3 (io), 9 DM2 (io), 10 DP2 (io), 11 DM1 (io), 12 DP1 (io), 13 LED3/SCL (io), 14 DMU (io), 15 DPU (io), 16 RESET#/CDP (in), 17 NC., 18 PSELF (in), 19 V5 (power), 20 VDD33 (power), 21 LED4/SDA (io), 22 LED1 (io), 23 LED2 (io), 24 PWREN# (out)

## CH334H
designator U?
4 ports High-Speed USB MTT Hub with 4 over current detect
footprint QFN28_5X5 (Footprint not found)
pins: 0 GND (power), 1 DMU (io), 2 DPU (io), 3 DM1 (io), 4 DP1 (io), 5 NC., 6 DM2 (io), 7 DP2 (io), 8 PWREN# (out), 9 NC., 10 XI (in), 11 XO (out), 12 DM3 (io), 13 DP3 (io), 14 VDD33 (power), 15 DM4 (io), 16 DP4 (io), 17 RESET#/CDP (in), 18 LED3/SCL (io), 19 OVCUR4# (in), 20 OVCUR3# (in), 21 VDD33 (power), 22 PSELF (in), 23 PGANG (io), 24 OVCUR2# (in), 25 OVCUR1# (in), 26 LED4/SDA (io), 27 V5 (power), 28 VDD33 (power)

## CH334L
designator U?
4 ports High-Speed USB MTT Hub with 4 over current detect
footprint LQFP48 (Footprint not found)
pins: 1 NC., 2 GND (power), 3 DMU (io), 4 DPU (io), 5 DM1 (io), 6 DP1 (io), 7 NC., 8 GND (power), 9 DM2 (io), 10 DP2 (io), 11 PWREN# (out), 12 NC., 13 GND (power), 14 XI (in), 15 XO (out), 16 VDD33 (power), 17 DM3 (io), 18 DP3 (io), 19 VDD33 (power), 20 GND (power), 21 DM4 (io), 22 DP4 (io), 23 NC., 24 NC., 25 NC., 26 RESET#/CDP (in), 27 LED3/SCL (io), 28 OVCUR4# (in), 29 NC., 30 OVCUR3# (in), 31 NC., 32 NC., 33 NC., 34 NC., 35 NC., 36 NC., 37 PSELF (in), 38 NC., 39 PGANG (io), 40 OVCUR2# (in), 41 NC., 42 OVCUR1# (in), 43 LED4/SDA (io), 44 NC., 45 NC., 46 NC., 47 V5 (power), 48 VDD33 (power)

## CH334P
designator U?
4 ports High-Speed USB MTT Hub
footprint QFN16_3X3 (Footprint not found)
pins: 0 GND (power), 1 XO (out), 2 XI (in), 3 DM4 (io), 4 DP4 (io), 5 DM3 (io), 6 DP3 (io), 7 DM2 (io), 8 DP2 (io), 9 DM1 (io), 10 DP1 (io), 11 DMU (io), 12 DPU (io), 13 RESET#/CDP (in), 14 PGANG (io), 15 V5 (power), 16 VDD33 (power)

## CH334Q
designator U?
4 ports High-Speed USB MTT Hub with over current detect & power control
footprint QFN36_6X6
pins: 0 GND (power), 1 DM1 (io), 2 DP1 (io), 3 DM2 (io), 4 DP2 (io), 5 NC., 6 DM3 (io), 7 DP3 (io), 8 DM4 (io), 9 DP4 (io), 10 VDD33 (power), 11 NC., 12 NC., 13 NC., 14 GND (power), 15 NC., 16 NC., 17 NC., 18 PWREN# (out), 19 NC., 20 NC., 21 OVCUR# (in), 22 LED4/SDA (io), 23 VDD33 (power), 24 LED3/SCL (io), 25 NC., 26 RESET#/CDP (in), 27 NC., 28 NC., 29 VDD33 (power), 30 DMU (io), 31 DPU (io), 32 XO (out), 33 XI (in), 34 NC., 35 GND (power), 36 NC.

## CH334R
designator U?
4 ports High-Speed USB MTT Hub
footprint QSOP16 (Footprint not found)
pins: 1 DM4 (io), 2 DP4 (io), 3 DM3 (io), 4 DP3 (io), 5 DM2 (io), 6 DP2 (io), 7 DM1 (io), 8 DP1 (io), 9 RESET#/CDP (in), 10 DMU (io), 11 DPU (io), 12 V5 (power), 13 VDD33 (power), 14 GND (power), 15 XO (out), 16 XI (in)

## CH334S
designator U?
4 ports High-Speed USB MTT Hub with over current detect & power control
footprint SSOP28 (Footprint not found)
pins: 1 NC., 2 DM2 (io), 3 DP2 (io), 4 PWREN# (out), 5 NC., 6 XI (in), 7 XO (out), 8 DM3 (io), 9 DP3 (io), 10 NC., 11 DM4 (io), 12 DP4 (io), 13 RESET#/CDP (in), 14 LED3/SCL (io), 15 GND (power), 16 NC., 17 PSELF (in), 18 PGANG (io), 19 NC., 20 NC., 21 OVCUR# (in), 22 LED4/SDA (io), 23 V5 (power), 24 VDD33 (power), 25 DMU (io), 26 DPU (io), 27 DM1 (io), 28 DP1 (io)

## CH334U
designator U?
4 ports High-Speed USB MTT Hub with over current detect & power control
footprint QSOP28 (Footprint not found)
pins: 1 GND (power), 2 XO (out), 3 XI (in), 4 DM4 (io), 5 DP4 (io), 6 DM3 (io), 7 DP3 (io), 8 DM2 (io), 9 DP2 (io), 10 DM1 (io), 11 DP1 (io), 12 GND (power), 13 VDD33 (power), 14 LED3/SCL (io), 15 DMU (io), 16 DPU (io), 17 RESET#/CDP (in), 18 NC., 19 PSELF (in), 20 V5 (power), 21 VDD33 (power), 22 LED4/SDA (io), 23 LED1 (io), 24 LED2 (io), 25 PWREN# (out), 26 OVCUR# (in), 27 NC., 28 GND (power)

## CH334X
designator U?
4 ports High-Speed USB MTT Hub with 4 over current detect & power control
footprint QFN36_6X6
pins: 0 GND (power), 1 DM1 (io), 2 DP1 (io), 3 DM2 (io), 4 DP2 (io), 5 NC., 6 DM3 (io), 7 DP3 (io), 8 DM4 (io), 9 DP4 (io), 10 VDD33 (power), 11 NC., 12 PWREN1 (out), 13 OVCUR1# (in), 14 GND (power), 15 NC., 16 PWREN2 (out), 17 OVCUR2# (in), 18 PWREN3 (out), 19 OVCUR3# (in), 20 PWREN4 (out), 21 OVCUR4# (in), 22 LED4/SDA (io), 23 VDD33 (power), 24 LED3/SCL (io), 25 NC., 26 RESET#/CDP (in), 27 NC., 28 NC., 29 VDD33 (power), 30 DMU (io), 31 DPU (io), 32 XO (out), 33 XI (in), 34 NC., 35 GND (power), 36 NC.

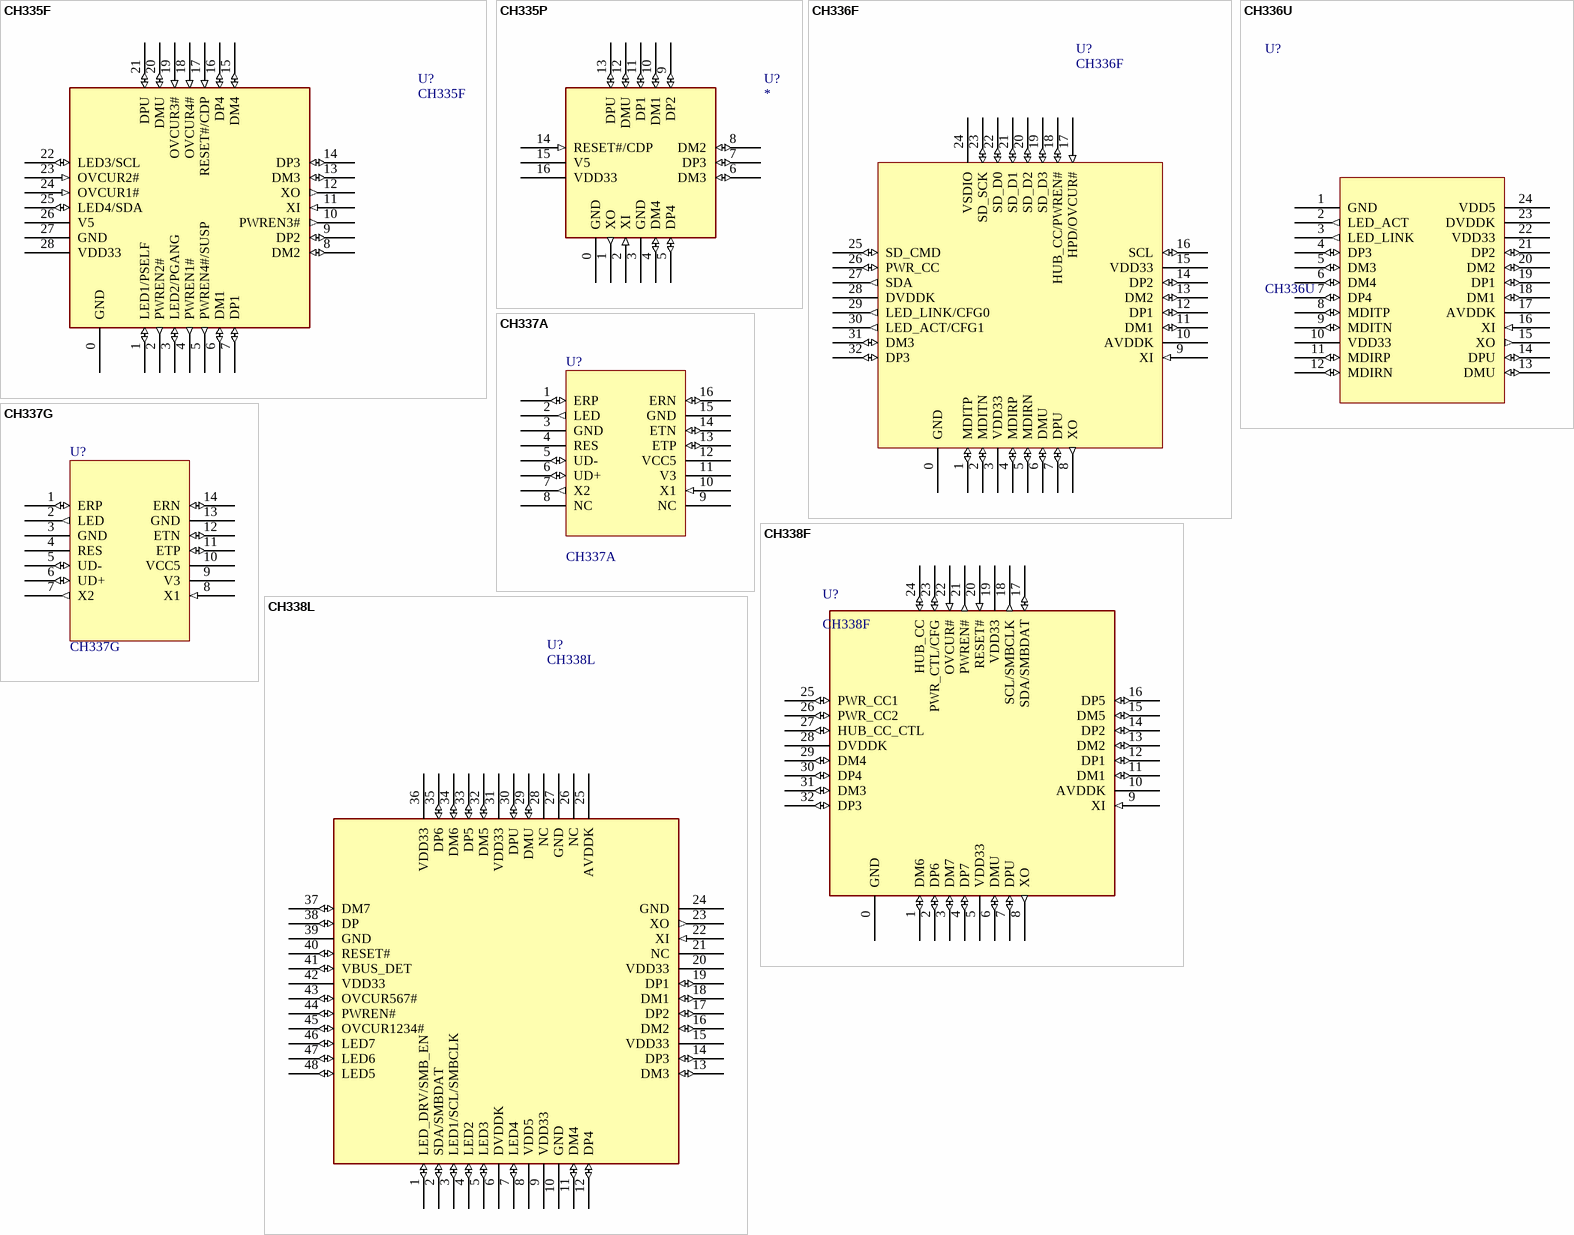
[diagram p27: symbols CH335F to CH338L]

## CH335F
designator U?
4 ports High-Speed USB MTT Hub with 4 over current detect & power control
footprint QFN28_4X4
pins: 0 GND (power), 1 LED1/PSELF (io), 2 PWREN2# (out), 3 LED2/PGANG (io), 4 PWREN1# (out), 5 PWREN4#/SUSP (out), 6 DM1 (io), 7 DP1 (io), 8 DM2 (io), 9 DP2 (io), 10 PWREN3# (out), 11 XI (in), 12 XO (out), 13 DM3 (io), 14 DP3 (io), 15 DM4 (io), 16 DP4 (io), 17 RESET#/CDP (in), 18 OVCUR4# (in), 19 OVCUR3# (in), 20 DMU (io), 21 DPU (io), 22 LED3/SCL (io), 23 OVCUR2# (in), 24 OVCUR1# (in), 25 LED4/SDA (io), 26 V5 (power), 27 GND (power), 28 VDD33 (power)

## CH335P
designator U?
4 ports High-Speed USB MTT Hub with internal oscillator
footprint QFN16C_2X2
pins: 0 GND (power), 1 XO (out), 2 XI (in), 3 GND (power), 4 DM4 (io), 5 DP4 (io), 6 DM3 (io), 7 DP3 (io), 8 DM2 (io), 9 DP2 (io), 10 DM1 (io), 11 DP1 (io), 12 DMU (io), 13 DPU (io), 14 RESET#/CDP (in), 15 V5 (power), 16 VDD33 (power)

## CH336F
designator U?
3 ports High-Speed USB MTT Hub with PD & SDIO & ethernet
footprint QFN32_4X4
pins: 0 GND (power), 1 MDITP (io), 2 MDITN (io), 3 VDD33 (power), 4 MDIRP (io), 5 MDIRN (io), 6 DMU (io), 7 DPU (io), 8 XO (out), 9 XI (in), 10 AVDDK (power), 11 DM1 (io), 12 DP1 (io), 13 DM2 (io), 14 DP2 (io), 15 VDD33 (power), 16 SCL (io), 17 HPD/OVCUR# (in), 18 HUB_CC/PWREN# (io), 19 SD_D3 (io), 20 SD_D2 (io), 21 SD_D1 (io), 22 SD_D0 (io), 23 SD_SCK (io), 24 VSDIO (power), 25 SD_CMD (io), 26 PWR_CC (io), 27 SDA (out), 28 DVDDK (power), 29 LED_LINK/CFG0 (out), 30 LED_ACT/CFG1 (out), 31 DM3 (io), 32 DP3 (io)